# EAGLE library part LGA2011V3SOCKET (library LGA2011)
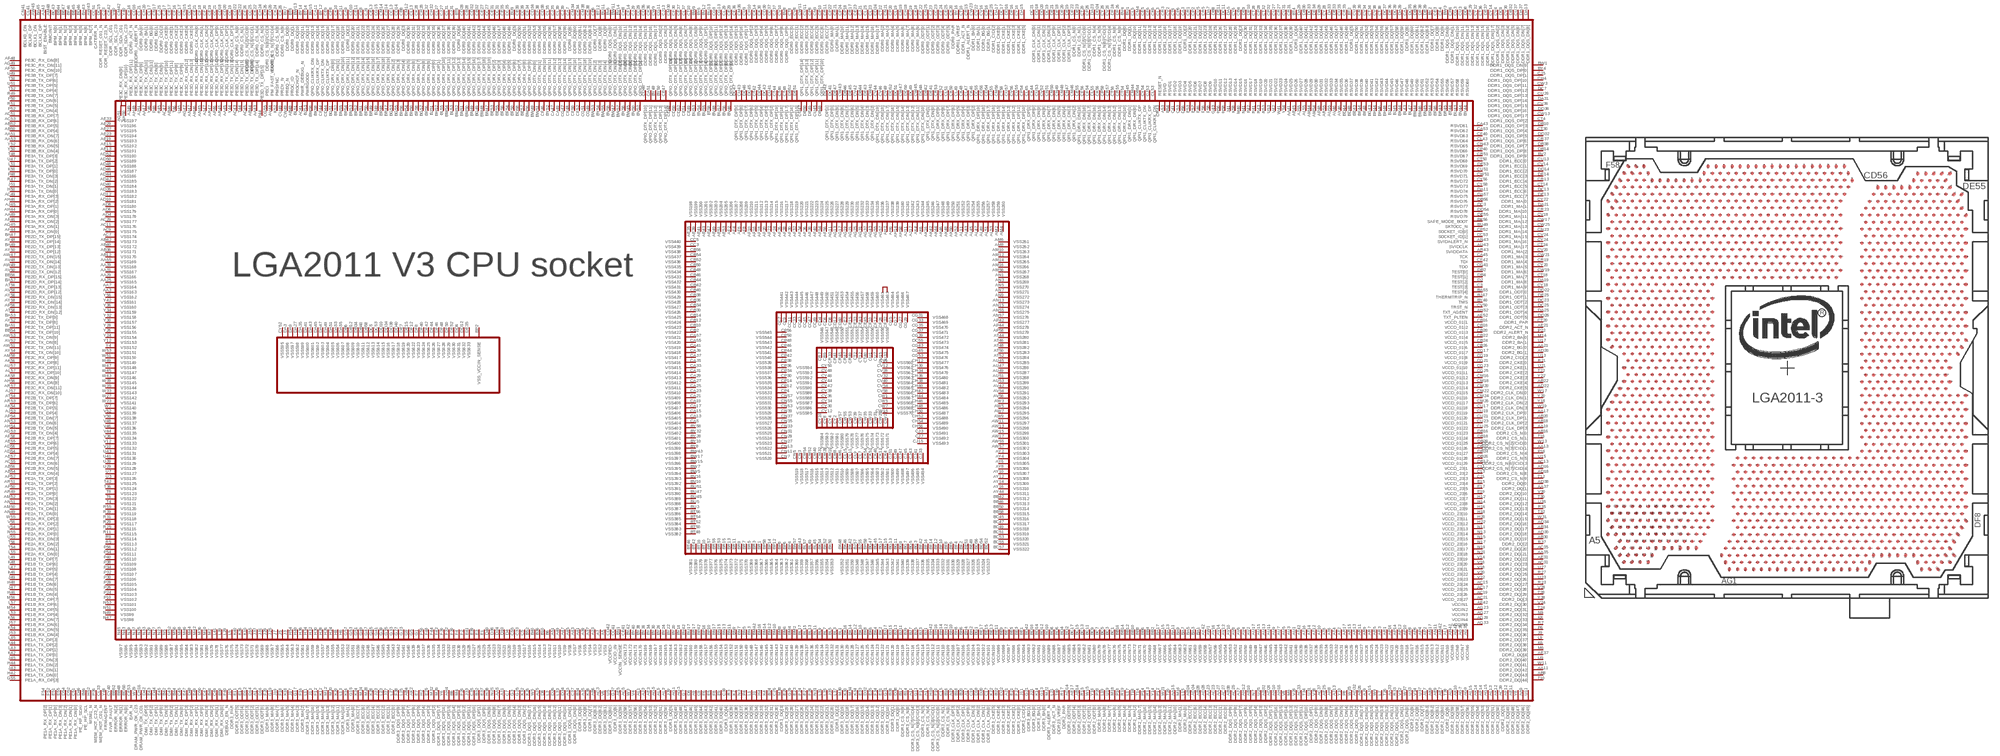
[diagram p0: symbol with the pads of LGA2011; footprint LGA2011]

Designator prefix IC

## LGA2011V3SOCKET  [LGA2011]
A5  VSS1
A7  VSS2
A9  DDR3_DQ[45]
A11  DDR3_CS_N[7]/CID[4]
A13  DDR3_ODT[1]
A15  DDR3_CS_N[4]
A17  DDR3_CLK_DP[0]
A19  DDR3_CLK_DP[3]
A21  DDR3_CKE[2]
A23  VSS3
A33  DDR3_DQS_DN[1]
A35  DDR3_DQ[8]
A37  VSS4
A39  VSS5
A41  VSS6
A43  VSS7
A45  VSS8
A47  VSS9
A49  VSS10
A51  VSS11
A53  RSVD
AA3  VSS163
AA5  DDR3_DQS_DN[7]
AA7  VSS164
AA9  DDR2_DQ[46]
AA11  DDR2_DQ[42]
AA13  DDR2_CS_N[3]/CID[1]
AA15  DDR2_MA[10]
AA17  DDR2_CLK_DP[0]
AA19  DDR2_CLK_DP[3]
AA21  DDR2_BG[0]
AA23  DDR2_ECC[3]
AA25  VSS165
AA27  DDR2_ECC[1]
AA29  VSS166
AA31  VSS167
AA33  DDR2_DQS_DN[11]
AA35  DDR2_DQ[21]
AA37  DDR2_DQ[1]
AA39  VSS168
AA41  RSVD25
AA43  PE3D_TX_DP[14]
AA45  PE3D_TX_DN[12]
AA47  PE3C_TX_DN[10]
AA49  PE3A_RX_DN[3]
AA51  PE3B_RX_DN[7]
AA53  PE3B_RX_DN[6]
AA55  VSS169
AB4  DDR3_DQS_DP[7]
AB6  DDR3_DQ[63]
AB8  DDR2_DQ[43]
AB10  DDR2_DQS_DP[5]
AB12  VSS170
AB14  DDR2_ODT[3]
AB16  DDR2_CS_N[0]
AB18  DDR2_CLK_DP[2]
AB20  DDR2_CLK_DP[1]
AB22  DDR2_CKE[4]
AB24  DDR2_ECC[7]
AB26  DDR2_DQS_DN[17]
AB28  DDR2_ECC[5]
AB30  DDR2_DQ[19]
AB32  DDR2_DQS_DP[2]
AB34  DDR2_DQ[17]
AB36  VSS171
AB38  DDR2_DQS_DP[9]
AB40  VSS172
AB42  VSS173
AB44  PE3D_TX_DP[13]
AB46  PE3C_TX_DP[11]
AB48  PROC_ID
AB50  PE3B_RX_DP[4]
AB52  PE3B_RX_DP[5]
AB54  PE2B_RX_DN[4]
AB56  PE2B_RX_DN[5]
AC3  DDR3_DQ[62]
AC5  DDR3_DQ[58]
AC7  VSS174
AC9  VSS175
AC11  VSS176
AC13  DDR2_CS_N[6]/CID[3]
AC15  VCCD_23|24
AC17  VCCD_23|25
AC19  VCCD_23|26
AC21  VCCD_23|27
AC23  DDR2_ECC[2]
AC25  DDR2_DQS_DP[8]
AC27  DDR2_ECC[0]
AC29  VSS177
AC31  DDR2_DQ[23]
AC33  DDR2_DQS_DP[11]
AC35  DDR2_DQ[20]
AC37  DDR2_DQS_DN[9]
AC39  DDR2_DQ[5]
AC41  PWR_DEBUG_N
AC43  PE3D_TX_DN[14]
AC45  PE3D_TX_DP[12]
AC47  PE3C_TX_DP[10]
AC49  PE3A_RX_DP[3]
AC51  PE3B_RX_DP[7]
AC53  PE3B_RX_DP[6]
AC55  PE2B_RX_DN[6]
AD4  VSS178
AD6  VSS179
AD8  VSS180
AD10  VSS181
AD12  VSS182
AD14  DDR2_ODT[5]
AD16  DDR2_CS_N[7]/CID[4]
AD18  DDR2_CS_N[8]
AD20  DDR2_BG[1]
AD22  DDR2_CKE[5]
AD24  DDR2_ECC[6]
AD26  DDR2_DQS_DP[17]
AD28  DDR2_ECC[4]
AD30  DDR2_DQ[18]
AD32  DDR2_DQS_DN[2]
AD34  DDR2_DQ[16]
AD36  VSS183
AD38  DDR2_DQ[0]
AD40  VSS184
AD42  VSS185
AD44  VSS186
AD46  VSS187
AD48  VSS188
AD50  VSS189
AD52  VSS190
AD54  PE2B_RX_DP[4]
AD56  PE2B_RX_DP[5]
AE3  DDR3_DQ[53]
AE5  DDR3_DQ[59]
AE7  DDR2_DQ[60]
AE9  DDR2_DQ[61]
AE11  DDR2_DQ[48]
AE13  VSS191
AE15  VSS192
AE17  DDR2_ODT[4]
AE19  VSS193
AE21  DDR2_ACT_N
AE23  VSS194
AE25  DDR2_DQS_DN[8]
AE27  VSS195
AE29  VSS196
AE31  DDR2_DQ[22]
AE33  VSS197
AE35  VSS198
AE37  DDR2_DQ[4]
AE39  VSS199
AE41  VSS200
AE43  VSS201
AE45  RSVD26
AE47  VSS202
AE49  VSS203
AE51  VSS204
AE53  VSS205
AE55  PE2B_RX_DP[6]
AE57  PE2B_RX_DN[7]
AF2  VSS206
AF4  VSS207
AF6  VSS208
AF8  VSS209
AF10  VSS210
AF12  DDR2_DQ[49]
AF14  DDR2_DQ[53]
AF16  VSS211
AF18  VSS212
AF20  VSS213
AF22  VSS214
AF24  VSS215
AF26  VSS216
AF28  VSS217
AF30  VSS218
AF32  VSS219
AF34  VSS220
AF36  VSS221
AF38  VSS222
AF40  VSS223
AF42  VCCIN1
AF44  PE3A_RX_DN[0]
AF46  PE3A_RX_DN[2]
AF48  PE3C_RX_DN[8]
AF50  PE3C_RX_DN[10]
AF52  TXT_PLTEN
AF54  VSS224
AF56  VSS225
AF58  PE2B_RX_DP[7]
AG1  DDR3_DQ[49]
AG3  DDR3_DQ[48]
AG5  DDR3_DQ[52]
AG7  DDR2_DQ[57]
AG9  DDR2_DQ[56]
AG11  VSS226
AG13  VSS227
AG15  DDR2_DQ[52]
AG17  VSS228
AG19  VSS229
AG21  VSS230
AG23  VCCIN2
AG25  VSS231
AG27  VCCIN3
AG29  VCCIN4
AG31  VSS232
AG33  VCCIN5
AG35  VCCIN6
AG37  VSS233
AG39  VCCIN7
AG41  VCCIN8
AG43  VSS234
AG45  PE3A_RX_DN[1]
AG47  PE3D_RX_DN[12]
AG49  PE3C_RX_DN[11]
AG51  PE3C_RX_DN[9]
AG53  PE2B_TX_DN[4]
AG55  VSS235
AG57  VSS236
AH2  VSS237
AH4  DDR3_DQS_DP[15]
AH6  VSS238
AH8  DDR2_DQS_DN[7]
AH10  DDR2_DQS_DP[16]
AH12  DDR2_DQS_DP[6]
AH14  VSS239
AH16  DDR2_DQS_DP[15]
AH42  VCCIN9
AH44  PE3A_RX_DP[0]
AH46  PE3A_RX_DP[2]
AH48  PE3C_RX_DP[8]
AH50  PE3C_RX_DP[10]
AH52  TXT_AGENT
AH54  PE2B_TX_DN[5]
AH56  PE2C_RX_DN[8]
AH58  VSS240
AJ1  DDR3_DQS_DN[6]
AJ3  DDR3_DQ[54]
AJ5  DDR3_DQS_DN[15]
AJ7  DDR2_DQS_DP[7]
AJ9  DDR2_DQS_DN[16]
AJ11  VSS241
AJ13  DDR2_DQS_DN[6]
AJ15  DDR2_DQS_DN[15]
AJ17  VSS242
AJ43  BIST_ENABLE
AJ45  PE3A_RX_DP[1]
AJ47  PE3D_RX_DP[12]
AJ49  PE3C_RX_DP[11]
AJ51  PE3C_RX_DP[9]
AJ53  PE2B_TX_DP[4]
AJ55  RSVD27
AJ57  PE2C_RX_DN[10]
AK2  DDR3_DQS_DP[6]
AK4  VSS243
AK6  VSS244
AK8  DDR2_DQ[62]
AK10  DDR2_DQ[58]
AK12  DDR2_DQ[50]
AK14  DDR2_DQ[54]
AK16  VSS245
AK42  VSS246
AK44  VSS247
AK46  VSS248
AK48  VSS249
AK50  VSS250
AK52  VSS251
AK54  PE2B_TX_DP[5]
AK56  PE2C_RX_DP[8]
AK58  PE2C_RX_DN[9]
AL1  DDR3_DQ[55]
AL3  DDR3_DQ[50]
AL5  DDR3_DQ[51]
AL7  DDR2_DQ[63]
AL9  DDR2_DQ[59]
AL11  VSS252
AL13  DDR2_DQ[51]
AL15  DDR2_DQ[55]
AL17  VCCIN10
AL43  VSS253
AL45  VSS254
AL47  VSS255
AL49  VSS256
AL51  VSS257
AL53  VSS258
AL55  RSVD28
AL57  PE2C_RX_DP[10]
AM2  VSS259
AM4  VSS260
AM6  VSS261
AM8  VSS262
AM10  VSS263
AM12  VSS264
AM14  VSS265
AM16  VSS266
AM42  VCCIN11
AM44  RSVD29
AM46  PE3D_RX_DN[14]
AM48  BMCINIT
AM50  PE2A_TX_DN[1]
AM52  PE2A_TX_DN[3]
AM54  RSVD30
AM56  VSS267
AM58  PE2C_RX_DP[9]
AN1  VSS268
AN3  VSS269
AN5  VSS270
AN7  VSS271
AN9  VSS272
AN11  VCCIN12
AN13  VSS273
AN15  VSS274
AN17  VCCIN13
AN43  SVIDALERT_N
AN45  PE3D_RX_DN[15]
AN47  PE3D_RX_DN[13]
AN49  PE2A_TX_DN[0]
AN51  PE2A_TX_DN[2]
AN53  PE2B_TX_DN[6]
AN55  VSS275
AN57  VSS276
AP2  VCCIN14
AP4  VCCIN15
AP6  VCCIN16
AP8  VCCIN17
AP10  VCCIN18
AP12  VCCIN19
AP14  VCCIN20
AP16  VCCIN21
AP42  VSS277
AP44  VSS278
AP46  PE3D_RX_DP[14]
AP48  RSVD31
AP50  PE2A_TX_DP[1]
AP52  PE2A_TX_DP[3]
AP54  PE2B_TX_DN[7]
AP56  PE2D_RX_DN[13]
AP58  VSS279
AR1  VCCIN22
AR3  VCCIN23
AR5  VCCIN24
AR7  VCCIN25
AR9  VCCIN26
AR11  VCCIN27
AR13  VCCIN28
AR15  VCCIN29
AR17  VCCIN30
AR43  SVIDDATA
AR45  PE3D_RX_DP[15]
AR47  PE3D_RX_DP[13]
AR49  PE2A_TX_DP[0]
AR51  PE2A_TX_DP[2]
AR53  PE2B_TX_DP[6]
AR55  RSVD32
AR57  PE2C_RX_DN[11]
AT2  VCCIN31
AT4  VCCIN32
AT6  VCCIN33
AT8  VCCIN34
AT10  VCCIN35
AT12  VCCIN36
AT14  VCCIN37
AT16  VCCIN38
AT42  VCCIN39
AT44  VSS280
AT46  VSS281
AT48  VSS282
AT50  VSS283
AT52  VSS284
AT54  PE2B_TX_DP[7]
AT56  PE2D_RX_DP[13]
AT58  PE2D_RX_DN[12]
AU1  VCCIN40
AU3  VCCIN41
AU5  VCCIN42
AU7  VCCIN43
AU9  VCCIN44
AU11  VCCIN45
AU13  VCCIN46
AU15  VCCIN47
AU17  VCCIN48
AU43  SVIDCLK
AU45  VSS285
AU47  VSS286
AU49  VSS287
AU51  VSS288
AU53  VSS289
AU55  RSVD33
AU57  PE2C_RX_DP[11]
AV2  VCCIN49
AV4  VCCIN50
AV6  VCCIN51
AV8  VCCIN52
AV10  VCCIN53
AV12  VCCIN54
AV14  VCCIN55
AV16  VCCIN56
AV42  VSS290
AV44  PM_FAST_WAKE_N
AV46  RSVD34
AV48  PE2D_TX_DN[14]
AV50  PE2D_TX_DN[12]
AV52  PE2C_TX_DN[8]
AV54  VSS291
AV56  VSS292
AV58  PE2D_RX_DP[12]
AW1  VCCIN57
AW3  VSS293
AW5  VSS294
AW7  VSS295
AW9  VSS296
AW11  VSS297
AW13  VSS298
AW15  VSS299
AW17  VSS300
AW43  BPM_N[7]
AW45  BCLK1_DN
AW47  PE2D_TX_DN[15]
AW49  PE2D_TX_DN[13]
AW51  PE2C_TX_DN[11]
AW53  PE2C_TX_DN[9]
AW55  VSS301
AW57  VSS302
AY2  VSS303
AY4  VSS304
AY6  VSS305
AY8  VSS306
AY10  VSS307
AY12  VSS308
AY14  VSS309
AY16  VSS310
AY42  VCCIN58
AY44  VSS311
AY46  RSVD35
AY48  PE2D_TX_DP[14]
AY50  PE2D_TX_DP[12]
AY52  PE2C_TX_DP[8]
AY54  PE2C_TX_DN[10]
AY56  PE2D_RX_DN[15]
AY58  PE2D_RX_DN[14]
B6  VSS12
B8  DDR3_DQS_DP[14]
B10  VSS13
B12  DDR3_CS_N[9]
B14  DDR3_CS_N[8]
B16  DDR3_CS_N[0]
B18  DDR3_CLK_DP[2]
B20  DDR3_CLK_DP[1]
B22  DDR3_CKE[4]
B24  DDR3_DQ[31]
B32  DDR3_DQS_DP[1]
B34  DDR3_DQ[9]
B36  VSS14
B38  DDR3_DQ[1]
B40  VSS15
B42  DMI_TX_DN[3]
B44  DMI_TX_DN[1]
B46  PE_HP_SCL
B48  DMI_RX_DN[2]
B50  DMI_RX_DN[0]
B52  VSS16
B54  RSVD1
BA1  VCCIN59
BA3  VCCIN60
BA5  VCCIN61
BA7  VCCIN62
BA9  VCCIN63
BA11  VCCIN64
BA13  VCCIN65
BA15  VCCIN66
BA17  VCCIN67
BA43  BPM_N[6]
BA45  BCLK1_DP
BA47  PE2D_TX_DP[15]
BA49  PE2D_TX_DP[13]
BA51  PE2C_TX_DP[11]
BA53  PE2C_TX_DP[9]
BA55  TEST[4]
BA57  PE2D_RX_DP[14]
BB2  VCCIN68
BB4  VCCIN69
BB6  VCCIN70
BB8  VCCIN71
BB10  VCCIN72
BB12  VCCIN73
BB14  VCCIN74
BB16  VCCIN75
BB42  VSS312
BB44  BPM_N[1]
BB46  VSS313
BB48  ERROR_N[1]
BB50  VSS314
BB52  ERROR_N[2]
BB54  PE2C_TX_DP[10]
BB56  PE2D_RX_DP[15]
BB58  VSS315
BC1  VCCIN76
BC3  VCCIN77
BC5  VCCIN78
BC7  VCCIN79
BC9  VCCIN80
BC11  VCCIN81
BC13  VCCIN82
BC15  VCCIN83
BC17  VCCIN84
BC43  BPM_N[0]
BC45  VSS316
BC47  VSS317
BC49  VSS318
BC51  VSS319
BC53  VSS320
BC55  VSS321
BC57  VSS322
BD2  VCCIN85
BD4  VCCIN86
BD6  VCCIN87
BD8  VCCIN88
BD10  VCCIN89
BD12  VCCIN90
BD14  VCCIN91
BD16  VCCIN92
BD42  VCCIN93
BD44  RSVD36
BD46  BPM_N[5]
BD48  RSVD37
BD50  ERROR_N[0]
BD52  VSS323
BD54  VSS324
BD56  VSS325
BD58  QPIO_DRX_DP[7]
BE1  VCCIN94
BE3  VCCIN95
BE5  VCCIN96
BE7  VCCIN97
BE9  VCCIN98
BE11  VCCIN99
BE13  VCCIN100
BE15  VCCIN101
BE17  VCCIN102
BE43  RSVD38
BE45  BPM_N[4]
BE47  BPM_N[2]
BE49  VSS326
BE51  VSS327
BE53  QPIO_DRX_DP[2]
BE55  QPIO_DRX_DP[3]
BE57  QPIO_DRX_DP[8]
BF2  VSS328
BF4  VSS329
BF6  VSS330
BF8  VSS331
BF10  VSS332
BF12  VSS333
BF14  VSS334
BF16  VSS335
BF42  VSS336
BF44  RSVD39
BF46  BPM_N[3]
BF48  RSVD40
BF50  QPIO_DRX_DP[6]
BF52  QPIO_DRX_DN[1]
BF54  QPIO_DRX_DP[5]
BF56  QPIO_DRX_DP[4]
BF58  QPIO_DRX_DN[7]
BG1  VCCIN103
BG3  VSS337
BG5  VSS338
BG7  VSS339
BG9  VSS340
BG11  VSS341
BG13  VSS342
BG15  VSS343
BG17  VSS344
BG43  RSVD41
BG45  VSS345
BG47  VSS346
BG49  QPIO_DRX_DP[17]
BG51  QPIO_DRX_DN[0]
BG53  QPIO_DRX_DN[2]
BG55  QPIO_DRX_DN[3]
BG57  QPIO_DRX_DN[8]
BH2  VCCIN104
BH4  VCCIN105
BH6  VCCIN106
BH8  VCCIN107
BH10  VCCIN108
BH12  VCCIN109
BH14  VCCIN110
BH16  VCCIN111
BH42  VCCIN112
BH44  RSVD42
BH46  RSVD43
BH48  RSVD44
BH50  QPIO_DRX_DN[6]
BH52  QPIO_DRX_DP[1]
BH54  QPIO_DRX_DN[5]
BH56  QPIO_DRX_DN[4]
BH58  VSS347
BJ1  VCCIN113
BJ3  VCCIN114
BJ5  VCCIN115
BJ7  VCCIN116
BJ9  VCCIN117
BJ11  VCCIN118
BJ13  VCCIN119
BJ15  VCCIN120
BJ17  VCCIN121
BJ43  RSVD45
BJ45  RSVD46
BJ47  THERMTRIP_N
BJ49  QPIO_DRX_DN[17]
BJ51  QPIO_DRX_DP[0]
BJ53  PWRGOOD
BJ55  VSS348
BJ57  VSS349
BK2  VCCIN122
BK4  VCCIN123
BK6  VCCIN124
BK8  VCCIN125
BK10  VCCIN126
BK12  VCCIN127
BK14  VCCIN128
BK16  VCCIN129
BK42  VSS350
BK44  RSVD47
BK46  VSS351
BK48  VSS352
BK50  VSS353
BK52  VSS354
BK54  VSS355
BK56  SAFE_MODE_BOOT
BK58  QPIO_CLIKRX_DP
BL1  VCCIN130
BL3  VCCIN131
BL5  VCCIN132
BL7  VCCIN133
BL9  VCCIN134
BL11  VCCIN135
BL13  VCCIN136
BL15  VCCIN137
BL17  VCCIN138
BL43  RSVD48
BL45  VSS356
BL47  RSVD49
BL49  VSS357
BL51  PROCHOT_N
BL53  QPIO_DRX_DP[12]
BL55  QPIO_DRX_DP[10]
BL57  VSS358
BM2  VCCIN139
BM4  VCCIN140
BM6  VCCIN141
BM8  VCCIN142
BM10  VCCIN143
BM12  VCCIN144
BM14  VCCIN145
BM16  VCCIN146
BM42  VCCIN147
BM44  RSVD50
BM46  RSVD51
BM48  QPIO_DRX_DP[18]
BM50  QPIO_DRX_DP[15]
BM52  QPIO_DRX_DP[13]
BM54  QPIO_DRX_DP[11]
BM56  QPIO_DRX_DP[9]
BM58  QPIO_CLIKRX_DN
BN1  VCCIN_SENSE
BN3  VCCIN148
BN5  VCCIN149
BN7  VCCIN150
BN9  VCCIN151
BN11  VCCIN152
BN13  VCCIN153
BN15  VCCIN154
BN17  VCCIN155
BN43  VSS359
BN45  RSVD52
BN47  QPIO_DRX_DP[19]
BN49  QPIO_DRX_DP[16]
BN51  QPIO_DRX_DP[14]
BN53  QPIO_DRX_DN[12]
BN55  QPIO_DRX_DN[10]
BN57  VSS360
BP2  VSS_VCCIN_SENSE
BP4  VSS361
BP6  VSS362
BP8  VSS363
BP10  VCCIN156
BP12  VSS364
BP14  VSS365
BP16  VCCIN157
BP42  VCCIN158
BP44  RSVD53
BP46  RSVD54
BP48  QPIO_DRX_DN[18]
BP50  QPIO_DRX_DN[15]
BP52  QPIO_DRX_DN[13]
BP54  QPIO_DRX_DN[11]
BP56  QPIO_DRX_DN[9]
BP58  VSS366
BR1  VSS367
BR3  VSS368
BR5  VSS369
BR7  VSS370
BR9  VSS371
BR11  VSS372
BR13  VSS373
BR15  VSS374
BR17  VCCIN159
BR43  RSVD55
BR45  RSVD56
BR47  QPIO_DRX_DN[19]
BR49  QPIO_DRX_DN[16]
BR51  QPIO_DRX_DN[14]
BR53  VSS375
BR55  VSS376
BR57  VSS377
BT2  DDR1_DQ[5]
BT4  DDR1_DQ[4]
BT6  DDR0_DQ[1]
BT8  DDR0_DQ[4]
BT10  VSS378
BT12  DDR0_DQ[8]
BT14  DDR0_DQ[12]
BT16  VSS379
BT42  VSS380
BT44  RSVD57
BT46  VSS381
BT48  VSS382
BT50  VSS383
BT52  VSS384
BT54  VSS385
BT56  VSS386
BT58  QPIO_DTX_DP[5]
BU1  DDR1_DQ[1]
BU3  VSS387
BU5  VSS388
BU7  DDR0_DQ[0]
BU9  DDR0_DQ[5]
BU11  DDR0_DQ[9]
BU13  DDR0_DQS_DP[10]
BU15  DDR0_DQ[13]
BU17  VCCIN160
BU43  RSVD58
BU45  VSS389
BU47  VSS390
BU49  SKTOCC_N
BU51  VSS391
BU53  QPIO_DTX_DP[2]
BU55  QPIO_DTX_DP[4]
BU57  QPIO_DTX_DP[7]
BV2  DDR1_DQS_DP[9]
BV4  DDR1_DQ[0]
BV6  DDR0_DQS_DN[0]
BV8  DDR0_DQS_DP[9]
BV10  VSS392
BV12  DDR0_DQS_DP[1]
BV14  DDR0_DQS_DN[10]
BV16  VSS393
BV42  VCCIN161
BV44  RSVD59
BV46  QPIO_DTX_DP[9]
BV48  QPIO_DTX_DP[6]
BV50  QPIO_DTX_DP[0]
BV52  QPIO_DTX_DP[1]
BV54  QPIO_DTX_DP[3]
BV56  QPIO_DTX_DP[8]
BV58  QPIO_DTX_DN[5]
BW1  DDR1_DQS_DN[9]
BW3  DDR1_DQS_DN[0]
BW5  VSS394
BW7  VSS395
BW9  DDR0_DQS_DN[9]
BW11  DDR0_DQS_DN[1]
BW13  DDR0_DQ[10]
BW15  VSS396
BW17  VSS397
BW43  VSS398
BW45  QPIO_DTX_DN[9]
BW47  QPIO_DTX_DN[6]
BW49  QPIO_DTX_DN[0]
BW51  QPIO_DTX_DN[1]
BW53  QPIO_DTX_DN[2]
BW55  QPIO_DTX_DN[4]
BW57  QPIO_DTX_DN[7]
BY2  DDR1_DQ[7]
BY4  DDR1_DQS_DP[0]
BY6  DDR0_DQS_DP[0]
BY8  VSS399
BY10  VSS400
BY12  DDR0_DQ[15]
BY14  DDR0_DQ[11]
BY16  DDR01_VREF
BY18  VCCIN162
BY20  VCCIN163
BY22  VCCIN164
BY24  VCCIN165
BY26  VCCIN166
BY28  VSS401
BY30  VCCIN167
BY32  VSS402
BY34  VCCIN168
BY36  VCCIN169
BY38  VCCIN170
BY40  VCCIN171
BY42  VCCIN172
BY44  RSVD60
BY46  TMS
BY48  QPIO_DTX_DP[12]
BY50  QPIO_DTX_DP[13]
BY52  QPIO_DTX_DN[11]
BY54  QPIO_DTX_DN[3]
BY56  QPIO_DTX_DN[8]
BY58  VSS403
C3  TEST[3]
C5  VSS17
C7  DDR3_DQS_DN[5]
C9  DDR3_DQ[44]
C11  VCCD_23|1
C13  VCCD_23|2
C15  DDR3_CS_N[1]
C17  DDR3_CLK_DN[0]
C19  DDR3_CLK_DN[3]
C21  VCCD_23|3
C23  DDR_RESET_C23_N
C25  DDR3_DQ[30]
C33  VSS18
C35  DDR3_DQS_DP[10]
C37  DDR3_DQS_DN[0]
C39  DDR3_DQ[4]
C41  RSVD2
C43  DMI_TX_DN[2]
C45  DMI_TX_DN[0]
C47  DMI_RX_DN[3]
C49  DMI_RX_DN[1]
C51  PE1A_RX_DN[0]
C53  RSVD3
C55  VSS19
CA1  DDR1_DQ[6]
CA3  DDR1_DQ[2]
CA5  VSS404
CA7  DDR0_DQ[6]
CA9  DDR0_DQ[2]
CA11  DDR0_DQ[14]
CA13  VSS405
CA15  VSS406
CA17  VSS407
CA19  VSS408
CA21  VSS409
CA23  VSS410
CA25  VSS411
CA27  VSS412
CA29  VSS413
CA31  VSS414
CA33  VSS415
CA35  VSS416
CA37  VSS417
CA39  VSS418
CA41  VSS419
CA43  RSVD61
CA45  TCK
CA47  QPIO_DTX_DN[12]
CA49  QPIO_DTX_DN[13]
CA51  QPIO_DTX_DP[11]
CA53  RSVD62
CA55  VSS420
CA57  VSS421
CB2  VSS422
CB4  DDR1_DQ[3]
CB6  DDR0_DQ[7]
CB8  DDR0_DQ[3]
CB10  VSS423
CB12  VSS424
CB14  VSS425
CB16  VCCD_01|1
CB18  VCCD_01|2
CB20  VCCD_01|3
CB22  VCCD_01|4
CB24  VCCD_01|5
CB26  VCCD_01|6
CB28  DDR0_DQ[41]
CB30  VSS426
CB32  DDR0_DQ[43]
CB34  VSS427
CB36  VSS428
CB38  VSS429
CB40  VSS430
CB42  VSS431
CB44  VSS432
CB46  VSS433
CB48  VSS434
CB50  VSS435
CB52  VSS436
CB54  VSS437
CB56  VSS438
CC3  VSS439
CC5  VSS440
CC7  VSS441
CC9  VSS442
CC11  VSS443
CC13  DDR0_DQ[28]
CC15  DDR0_CKE[5]
CC17  DDR0_CKE[3]
CC19  DDR0_CLK_DP[3]
CC21  DDR0_CLK_DP[0]
CC23  DDR0_ODT[3]
CC25  DDR0_CS_N[3]/CID[1]
CC27  DDR0_DQ[45]
CC29  DDR0_DQS_DN[14]
CC31  DDR0_DQ[47]
CC33  VSS444
CC35  DDR0_DQ[49]
CC37  DDR0_DQS_DP[6]
CC39  DDR0_DQ[51]
CC41  VCCIO_IN
CC43  VSS445
CC45  VSS446
CC47  VSS447
CC49  VSS448
CC51  CATERR_N
CC53  SOCKET_ID[1]
CC55  QPI1_DRX_DP[19]
CD4  VSS449
CD6  VSS450
CD8  VSS451
CD10  DDR0_DQ[20]
CD12  VSS452
CD14  DDR0_DQ[29]
CD16  DDR0_ALBERT_N
CD18  DDR0_CLK_DP[1]
CD20  DDR0_CLK_DP[2]
CD22  DDR0_CS_N[0]
CD24  DDR0_MA[17]
CD26  DDR0_CS_N[7]/CID[4]
CD28  DDR0_DQ[40]
CD30  DDR0_DQS_DP[5]
CD32  DDR0_DQ[42]
CD34  DDR0_DQ[53]
CD36  DDR0_DQS_DN[15]
CD38  DDR0_DQ[55]
CD40  VSS453
CD42  VCCPECI
CD44  QPIO_CLIKTX_DP
CD46  QPIO_DTX_DP[10]
CD48  QPIO_DTX_DP[15]
CD50  QPIO_DTX_DP[16]
CD52  QPIO_DTX_DP[17]
CD54  QPI1_DRX_DP[17]
CD56  QPI1_DRX_DP[18]
CE3  DDR1_DQ[8]
CE5  DDR1_DQ[12]
CE7  VSS454
CE9  DDR0_DQ[16]
CE11  DDR0_DQ[21]
CE13  DDR0_DQ[24]
CE15  VSS455
CE17  DDR0_CKE[1]
CE19  DDR0_CLK_DN[3]
CE21  DDR0_CLK_DN[0]
CE23  DDR0_MA[13]
CE25  DDR0_ODT[5]
CE27  DDR0_DQ[44]
CE29  DDR0_DQS_DP[14]
CE31  DDR0_DQ[46]
CE33  VSS456
CE35  DDR0_DQ[48]
CE37  DDR0_DQS_DN[6]
CE39  DDR0_DQ[50]
CE41  VCCIN173
CE43  VSS457
CE45  VSS458
CE47  QPIO_DTX_DP[14]
CE49  QPIO_DTX_DP[19]
CE51  QPIO_DTX_DP[18]
CE53  EAR_N
CE55  QPI1_DRX_DN[19]
CF4  DDR1_DQ[9]
CF6  DDR1_DQ[13]
CF8  DDR0_DQ[17]
CF10  VSS459
CF12  VSS460
CF14  DDR0_DQS_DN[12]
CF16  DDR0_CKE[2]
CF18  DDR0_CLK_DN[1]
CF20  DDR0_CLK_DN[2]
CF22  DDR0_ODT[0]
CF24  DDR0_ODT[4]
CF26  DDR0_CS_N[2]/CID[0]
CF28  VSS461
CF30  DDR0_DQS_DN[5]
CF32  VSS463
CF34  DDR0_DQ[52]
CF36  DDR0_DQS_DP[15]
CF38  DDR0_DQ[54]
CF40  RSVD63
CF42  TDI
CF44  QPIO_CLIKTX_DN
CF46  QPIO_DTX_DN[10]
CF48  QPIO_DTX_DN[15]
CF50  QPIO_DTX_DN[16]
CF52  QPIO_DTX_DN[17]
CF54  QPI1_DRX_DN[17]
CF56  QPI1_DRX_DN[18]
CG3  DDR1_DQS_DN[10]
CG5  VSS464
CG7  VSS465
CG9  DDR0_DQS_DP[11]
CG11  DDR0_DQS_DN[2]
CG13  DDR0_DQS_DP[12]
CG15  DDR0_DQ[25]
CG17  VCCD_01|7
CG19  VCCD_01|8
CG21  VCCD_01|9
CG23  VCCD_01|10
CG25  VCCD_01|11
CG27  VSS466
CG29  VSS467
CG31  VSS468
CG33  VSS469
CG35  VSS470
CG37  VSS471
CG39  VSS472
CG41  TDO
CG43  VSS474
CG45  VSS475
CG47  QPIO_DTX_DN[14]
CG49  QPIO_DTX_DN[19]
CG51  QPIO_DTX_DN[18]
CG53  VSS476
CG55  PECI
CH4  DDR1_DQS_DP[10]
CH6  DDR1_DQS_DN[1]
CH8  DDR0_DQS_DN[11]
CH10  DDR0_DQS_DP[2]
CH12  VSS477
CH14  DDR0_DQ[27]
CH16  DRAM_PWR_OK_CO1
CH18  DDR0_MA[7]
CH20  DDR0_BA[1]
CH22  DDR0_CS_N[1]
CH24  DDR0_CS_N[5]
CH26  DDR0_CS_N[6]/CID[3]
CH28  DDR0_DQ[33]
CH30  VSS478
CH32  DDR0_DQ[35]
CH34  VSS479
CH36  VSS480
CH38  VSS481
CH40  VSS482
CH42  VSS483
CH44  VSS484
CH46  VSS485
CH48  VSS486
CH50  VSS487
CH52  VSS488
CH54  VSS489
CH56  VSS490
CJ3  VSS491
CJ5  DDR1_DQS_DP[1]
CJ7  VSS492
CJ9  DDR0_DQ[23]
CJ11  DDR0_DQ[19]
CJ13  DDR0_DQS_DN[3]
CJ15  VSS493
CJ17  DDR0_CKE[0]
CJ19  DDR0_MA[8]
CJ21  DDR0_MA[14]
CJ23  DDR0_ODT[2]
CJ25  DDR0_CID[2]
CJ27  DDR0_DQ[37]
CJ29  DDR0_DQS_DN[13]
CJ31  DDR0_DQ[39]
CJ33  VSS494
CJ35  DDR0_DQ[57]
CJ37  DDR0_DQS_DP[7]
CJ39  DDR0_DQ[59]
CJ41  VSS495
CJ43  VSS496
CJ45  VSS497
CJ47  VSS498
CJ49  VSS499
CJ51  VSS500
CJ53  QPI1_CLIKRX_DP
CJ55  QPI1_DRX_DP[16]
CK4  VSS501
CK6  DDR1_DQ[14]
CK8  DDR0_DQ[22]
CK10  DDR0_DQ[18]
CK12  VSS502
CK14  DDR0_DQS_DP[3]
CK16  DDR0_ACT_N
CK18  DDR0_MA[9]
CK20  DDR0_PAR
CK22  DDR0_CS_N[4]
CK24  DDR0_CS_N[8]
CK26  DDR0_CS_N[9]
CK28  DDR0_DQ[32]
CK30  DDR0_DQS_DP[4]
CK32  DDR0_DQ[34]
CK34  DDR0_DQ[61]
CK36  DDR0_DQS_DN[16]
CK38  DDR0_DQ[63]
CK40  VSS503
CK42  DDR_SCL_C01
CK44  QPI1_DRX_DP[0]
CK46  QPI1_DRX_DP[2]
CK48  QPI1_DRX_DP[4]
CK50  QPI1_DRX_DP[6]
CK52  VSS504
CK54  VSS505
CK56  QPI1_DRX_DN[15]
CL3  DDR1_DQ[15]
CL5  DDR1_DQ[10]
CL7  VSS506
CL9  VSS507
CL11  VSS508
CL13  DDR0_DQ[31]
CL15  VSS509
CL17  DDR0_BG[0]
CL19  DDR0_MA[5]
CL21  DDR0_BA[0]
CL23  DDR0_MA[16]
CL25  DDR0_MA[15]
CL27  DDR0_DQ[36]
CL29  DDR0_DQS_DP[13]
CL31  DDR0_DQ[38]
CL33  MEM_HOT_C01_N
CL35  DDR0_DQ[56]
CL37  DDR0_DQS_DN[7]
CL39  DDR0_DQ[58]
CL41  BCLK0_DP
CL43  RSVD64
CL45  QPI1_DRX_DP[1]
CL47  QPI1_DRX_DP[3]
CL49  QPI1_DRX_DP[5]
CL51  QPI1_DRX_DP[7]
CL53  QPI1_CLIKRX_DN
CL55  QPI1_DRX_DN[16]
CM4  DDR1_DQ[11]
CM6  VSS510
CM8  VSS511
CM10  VSS512
CM12  DDR0_DQ[30]
CM14  DDR0_DQ[26]
CM16  VCCD_01|12
CM18  VCCD_01|13
CM20  VCCD_01|14
CM22  VCCD_01|15
CM24  VCCD_01|16
CM26  VCCD_01|17
CM28  VSS513
CM30  DDR0_DQS_DN[4]
CM32  VSS514
CM34  DDR0_DQ[60]
CM36  DDR0_DQS_DP[16]
CM38  DDR0_DQ[62]
CM40  VSS515
CM42  DDR_SDA_C01
CM44  QPI1_DRX_DN[0]
CM46  QPI1_DRX_DN[2]
CM48  QPI1_DRX_DN[4]
CM50  QPI1_DRX_DN[6]
CM52  VSS516
CM54  VSS517
CM56  QPI1_DRX_DP[15]
CN3  VSS518
CN5  VSS519
CN7  VSS520
CN9  DDR0_ECC[5]
CN11  VSS521
CN13  VSS522
CN15  DDR0_CKE[4]
CN17  DDR0_BG[1]
CN19  DDR0_MA[6]
CN21  DDR0_MA[3]
CN23  DDR1_MA[14]
CN25  DDR0_ODT[1]
CN27  VSS523
CN29  VSS524
CN31  VSS525
CN33  VSS526
CN35  VSS527
CN37  VSS528
CN39  VSS529
CN41  BCLK0_DN
CN43  RSVD65
CN45  QPI1_DRX_DN[1]
CN47  QPI1_DRX_DN[3]
CN49  QPI1_DRX_DN[5]
CN51  QPI1_DRX_DN[7]
CN53  VSS530
CN55  VSS531
CN57  VSS532
CP2  DDR1_DQ[21]
CP4  VSS533
CP6  DDR1_DQ[19]
CP8  DDR0_ECC[4]
CP10  DDR0_ECC[6]
CP12  VSS534
CP14  VSS535
CP16  DDR1_BG[1]
CP18  DDR0_MA[11]
CP20  DDR0_MA[4]
CP22  DDR0_MA[0]
CP24  DDR0_MA[10]
CP26  DDR1_CS_N[3]/CID[1]
CP28  DDR1_DQ[33]
CP30  VSS536
CP32  DDR1_DQ[35]
CP34  VSS537
CP36  VSS538
CP38  VSS539
CP40  RSVD66
CP42  VSS540
CP44  VSS541
CP46  VSS542
CP48  VSS543
CP50  VSS544
CP52  SOCKET_ID[0]
CP54  QPI1_DRX_DP[10]
CP56  VSS545
CP58  QPI1_DRX_DN[14]
CR1  DDR1_DQ[20]
CR3  DDR1_DQ[16]
CR5  DDR1_DQ[23]
CR7  VSS546
CR9  VSS547
CR11  DDR0_ECC[7]
CR13  DDR1_ECC[4]
CR15  DDR1_ALERT_N
CR17  DDR0_MA[12]
CR19  DDR1_MA[4]
CR21  DDR0_MA[1]
CR23  DDR1_MA[10]
CR25  DDR1_CID[2]
CR27  DDR1_DQ[37]
CR29  DDR1_DQS_DN[13]
CR31  DDR1_DQ[39]
CR33  VSS548
CR35  DDR1_DQ[49]
CR37  DDR1_DQS_DP[6]
CR39  DDR1_DQ[51]
CR41  VSS549
CR43  RESET_N
CR45  VSS550
CR47  VSS551
CR49  VSS552
CR51  RSVD67
CR53  QPI1_DRX_DP[9]
CR55  QPI1_DRX_DN[11]
CR57  QPI1_DRX_DN[13]
CT2  VSS553
CT4  DDR1_DQS_DP[2]
CT6  DDR1_DQ[18]
CT8  DDR0_ECC[0]
CT10  DDR0_DQS_DN[8]
CT12  VSS554
CT14  DDR1_ECC[5]
CT16  DDR1_ACT_N
CT18  DDR1_MA[7]
CT20  DDR1_PAR
CT22  DDR0_MA[2]
CT24  DDR1_MA[17]
CT26  DDR1_CS_N[2]/CID[0]
CT28  DDR1_DQ[32]
CT30  DDR1_DQS_DP[4]
CT32  DDR1_DQ[34]
CT34  DDR1_DQ[53]
CT36  DDR1_DQS_DN[15]
CT38  DDR1_DQ[55]
CT40  VSS555
CT42  QPI1_DTX_DP[5]
CT44  QPI1_DTX_DP[19]
CT46  QPI1_DTX_DP[18]
CT48  QPI1_DTX_DP[17]
CT50  RSVD68
CT52  QPI1_DRX_DP[8]
CT54  QPI1_DRX_DN[10]
CT56  QPI1_DRX_DN[12]
CT58  QPI1_DRX_DP[14]
CU1  VSS556
CU3  DDR1_DQS_DN[11]
CU5  DDR1_DQ[22]
CU7  VSS557
CU9  DDR0_DQS_DP[17]
CU11  DDR0_ECC[3]
CU13  DDR1_ECC[0]
CU15  VSS558
CU17  VCCD_01|18
CU19  VCCD_01|19
CU21  VCCD_01|20
CU23  VCCD_01|21
CU25  VCCD_01|22
CU27  DDR1_DQ[36]
CU29  DDR1_DQS_DP[13]
CU31  DDR1_DQ[38]
CU33  VSS559
CU35  DDR1_DQ[48]
CU37  DDR1_DQS_DN[6]
CU39  DDR1_DQ[50]
CU41  QPI1_DTX_DP[2]
CU43  QPI1_DTX_DP[8]
CU45  QPI1_DTX_DP[11]
CU47  QPI1_DTX_DP[14]
CU49  PRDY_N
CU51  RSVD70
CU53  QPI1_DRX_DN[9]
CU55  QPI1_DRX_DP[11]
CU57  QPI1_DRX_DP[13]
CV2  DDR1_DQ[17]
CV4  DDR1_DQS_DN[2]
CV6  VSS560
CV8  DDR0_ECC[1]
CV10  DDR0_DQS_DP[8]
CV12  VSS561
CV14  DDR1_ECC[1]
CV16  DDR1_BG[0]
CV18  DDR1_MA[11]
CV20  DDR1_MA[2]
CV22  DDR1_BA[1]
CV24  DDR1_MA[15]
CV26  DDR1_CS_N[7]/CID[4]
CV28  VSS562
CV30  DDR1_DQS_DN[4]
CV32  VSS563
CV34  DDR1_DQ[52]
CV36  DDR1_DQS_DP[15]
CV38  DDR1_DQ[54]
CV40  VSS564
CV42  QPI1_DTX_DN[5]
CV44  QPI1_DTX_DN[19]
CV46  QPI1_DTX_DN[18]
CV48  QPI1_DTX_DN[17]
CV50  TRST_N
CV52  QPI1_DRX_DN[8]
CV54  VSS565
CV56  QPI1_DRX_DP[12]
CV58  VSS566
CW1  VSS567
CW3  DDR1_DQS_DP[11]
CW5  VSS568
CW7  VSS569
CW9  DDR0_DQS_DN[17]
CW11  DDR0_ECC[2]
CW13  DDR1_DQS_DP[17]
CW15  VSS570
CW17  DDR1_MA[12]
CW19  DDR1_MA[6]
CW21  DDR1_MA[3]
CW23  DDR1_BA[0]
CW25  DDR1_MA[13]
CW27  VSS571
CW29  VSS572
CW31  VSS573
CW33  VSS574
CW35  VSS575
CW37  VSS576
CW39  VSS577
CW41  QPI1_DTX_DN[2]
CW43  QPI1_DTX_DN[8]
CW45  QPI1_DTX_DN[11]
CW47  QPI1_DTX_DN[14]
CW49  PREQ_N
CW51  RSVD71
CW53  VSS578
CW55  VSS579
CW57  VSS580
CY2  VSS581
CY4  VSS582
CY6  DDR1_DQ[29]
CY8  VSS583
CY10  VSS584
CY12  VSS585
CY14  DDR1_DQS_DN[17]
CY16  DDR1_CKE[4]
CY18  DDR1_MA[9]
CY20  DDR1_MA[5]
CY22  DDR1_MA[0]
CY24  DDR1_MA[16]
CY26  DDR1_CS_N[6]/CID[3]
CY28  DDR1_DQ[45]
CY30  VSS586
CY32  DDR1_DQS_DN[14]
CY34  VSS587
CY36  VSS588
CY38  VSS589
CY40  FIVR_FAULT
CY42  VSS590
CY44  VSS591
CY46  VSS592
CY48  VSS593
CY50  VSS594
CY52  VSS595
CY54  QPI1_CLIKTX_DN
CY56  RSVD72
CY58  RSVD73
D2  TEST[2]
D4  VSS20
D6  DDR3_DQ[46]
D8  DDR3_DQS_DN[14]
D10  VSS21
D12  DDR3_ODT[3]
D14  DDR3_ODT[2]
D16  DDR3_ODT[0]
D18  DDR3_CLK_DN[2]
D20  DDR3_CLK_DN[1]
D22  DDR3_CKE[3]
D24  VSS22
D26  DDR3_DQS_DN[12]
D32  DDR3_DQ[14]
D34  DDR3_DQS_DN[10]
D36  VSS23
D38  DDR3_DQ[0]
D40  VSS24
D42  DMI_TX_DP[3]
D44  DMI_TX_DP[1]
D46  PE_HP_SDA\
D48  DMI_RX_DP[2]
D50  DMI_RX_DP[0]
D52  PE1A_RX_DN[1]
D54  PE1A_RX_DN[2]
D56  RSVD4
DA3  VSS596
DA5  DDR1_DQ[28]
DA7  DDR1_DQ[24]
DA9  VSS597
DA11  RSVD74
DA13  DDR1_DQS_DN[8]
DA15  DDR1_CKE[5]
DA17  DDR1_CKE[0]
DA19  DDR1_MA[8]
DA21  DDR1_MA[1]
DA23  DDR1_CS_N[4]
DA25  DDR1_ODT[4]
DA27  VSS598
DA29  DDR1_DQ[40]
DA31  DDR1_DQS_DP[14]
DA33  DDR1_DQ[46]
DA35  VSS599
DA37  DDR1_DQS_DN[7]
DA39  DDR1_DQ[59]
DA41  VSS600
DA43  VSS601
DA45  VSS602
DA47  VSS603
DA49  VSS604
DA51  VSS605
DA53  VSS606
DA55  VSS607
DA57  RSVD75
DB2  TEST[0]
DB4  TEST[1]
DB6  VSS608
DB8  DDR1_DQ[25]
DB10  DDR1_DQS_DP[3]
DB12  VSS609
DB14  DDR1_DQS_DP[8]
DB16  VCCD_01|23
DB18  VCCD_01|24
DB20  VCCD_01|25
DB22  VCCD_01|26
DB24  VCCD_01|27
DB26  VCCD_01|28
DB28  DDR1_DQ[44]
DB30  DDR1_DQ[41]
DB32  DDR1_DQS_DN[5]
DB34  VSS610
DB36  DDR1_DQ[61]
DB38  DDR1_DQS_DP[7]
DB40  VSS611
DB42  QPI1_DTX_DN[1]
DB44  QPI1_DTX_DN[4]
DB46  QPI1_DTX_DN[7]
DB48  QPI1_DTX_DP[10]
DB50  QPI1_DTX_DP[13]
DB52  QPI1_DTX_DP[16]
DB54  QPI1_CLIKTX_DP
DB56  RSVD76
DB58  VSS612
DC3  RSVD77
DC5  VSS613
DC7  DDR1_DQS_DP[12]
DC9  DDR1_DQS_DN[3]
DC11  DDR1_DQ[27]
DC13  DDR1_ECC[6]
DC15  DDR_RESET_C01_N
DC17  DDR1_CKE[1]
DC19  DDR1_CLK_DN[3]
DC21  DDR1_CLK_DN[0]
DC23  DDR1_ODT[2]
DC25  DDR1_ODT[3]
DC33  DDR1_DQ[42]
DC35  DDR1_DQ[60]
DC37  DDR1_DQ[56]
DC39  DDR1_DQ[58]
DC41  QPI1_DTX_DP[0]
DC43  QPI1_DTX_DP[3]
DC45  QPI1_DTX_DP[6]
DC47  QPI1_DTX_DP[9]
DC49  QPI1_DTX_DN[12]
DC51  QPI1_DTX_DN[15]
DC53  VSS614
DC55  VSS473
DD6  VSS631
DD8  DDR1_DQS_DN[12]
DD10  VSS615
DD12  VSS632
DD14  DDR1_ECC[2]
DD16  DDR1_CKE[2]
DD18  DDR1_CLK_DN[1]
DD20  DDR1_CLK_DN[2]
DD22  DDR1_ODT[0]
DD24  DDR1_CS_N[5]
DD26  DDR1_ODT[5]
DD32  DDR1_DQS_DP[5]
DD34  VSS616
DD36  DDR1_DQS_DP[16]
DD38  VSS617
DD40  VSS618
DD42  QPI1_DTX_DP[1]
DD44  QPI1_DTX_DP[4]
DD46  QPI1_DTX_DP[7]
DD48  QPI1_DTX_DN[10]
DD50  QPI1_DTX_DN[13]
DD52  QPI1_DTX_DN[16]
DD54  RSVD78
DE7  VSS619
DE9  DDR1_DQ[30]
DE11  DDR1_DQ[26]
DE13  DDR1_ECC[7]
DE15  VSS620
DE17  VCCD_01|29
DE19  DDR1_CLK_DP[3]
DE21  DDR1_CLK_DP[0]
DE23  DDR1_CS_N[1]
DE25  DDR1_ODT[1]
DE33  DDR1_DQ[47]
DE35  VSS633
DE37  DDR1_DQS_DN[16]
DE39  DDR1_DQ[63]
DE41  QPI1_DTX_DN[0]
DE43  QPI1_DTX_DN[3]
DE45  QPI1_DTX_DN[6]
DE47  QPI1_DTX_DN[9]
DE49  QPI1_DTX_DP[12]
DE51  QPI1_DTX_DP[15]
DE53  RSVD69
DE55  RSVD79
DF8  VSS623
DF10  DDR1_DQ[31]
DF12  VSS622
DF14  DDR1_ECC[3]
DF16  DDR1_CKE[3]
DF18  DDR1_CLK_DP[1]
DF20  DDR1_CLK_DP[2]
DF22  DDR1_CS_N[0]
DF24  DDR1_CS_N[8]
DF26  DDR1_CS_N[9]
DF34  DDR1_DQ[43]
DF36  DDR1_DQ[57]
DF38  DDR1_DQ[62]
DF40  VSS624
DF42  VSS625
DF44  VSS626
DF46  VSS627
DF48  VSS628
DF50  VSS629
DF52  VSS630
E1  VSS25
E3  VSS26
E5  DDR3_DQ[42]
E7  DDR3_DQS_DP[5]
E9  DDR3_DQ[40]
E11  DDR3_ODT[5]
E13  DDR3_ODT[4]
E15  VCCD_23|4
E17  VCCD_23|5
E19  VCCD_23|6
E21  DDR3_CKE[1]
E23  DDR3_DQ[27]
E25  DDR3_DQS_DP[3]
E27  DDR3_DQ[25]
E29  DDR3_DQ[29]
E31  DDR3_DQ[11]
E33  DDR3_DQ[15]
E35  DDR3_DQ[13]
E37  DDR3_DQS_DP[0]
E39  VSS27
E41  VSS28
E43  DMI_TX_DP[2]
E45  DMI_TX_DP[0]
E47  DMI_RX_DP[3]
E49  DMI_RX_DP[1]
E51  PE1A_RX_DP[0]
E53  RSVD5
E55  PE1A_RX_DN[3]
E57  RSVD6
F2  VSS29
F4  VSS30
F6  DDR3_DQ[43]
F8  DDR3_DQ[41]
F10  DDR3_CS_N[2]/CID[0]
F12  DDR3_MA[15]
F14  DDR3_CS_N[5]
F16  DDR3_MA[2]
F18  DDR3_MA[6]
F20  DDR3_MA[9]
F22  DDR3_CKE[0]
F24  DDR3_DQ[26]
F26  DDR3_DQS_DP[12]
F28  DDR3_DQ[24]
F30  VSS31
F32  VSS32
F34  DDR3_DQ[12]
F36  VSS33
F38  DDR3_DQS_DP[9]
F40  DEBUG_EN_N
F42  VSS34
F44  VSS35
F46  RSVD7
F48  VSS36
F50  VSS37
F52  PE1A_RX_DP[1]
F54  PE1A_RX_DP[2]
F56  RSVD8
F58  RSVD9
G1  VSS38
G3  DDR3_DQS_DN[4]
G5  VSS39
G7  DDR3_DQ[47]
G9  VSS40
G11  DDR3_CS_N[6]/CID[3]
G13  DDR3_BA[0]
G15  DDR3_MA[0]
G17  DDR3_MA[3]
G19  DDR3_MA[8]
G21  DDR3_BG[1]
G23  VSS41
G25  DDR3_DQS_DN[3]
G27  VSS42
G29  DDR3_DQ[28]
G31  DDR3_DQ[10]
G33  VSS43
G35  VSS44
G37  DDR3_DQ[6]
G39  VSS45
G41  VSS46
G43  RSVD10
G45  VSS47
G47  VSS48
G49  VSS49
G51  VSS50
G53  VSS51
G55  PE1A_RX_DP[3]
G57  VSS52
H2  DDR3_DQS_DP[4]
H4  DDR3_DQ[33]
H6  VSS53
H8  VSS54
H10  DDR3_CS_N[3]/CID[1]
H12  VCCD_23|7
H14  VCCD_23|8
H16  VCCD_23|9
H18  VCCD_23|10
H20  VCCD_23|11
H22  VCCD_23|12
H24  VSS55
H26  VSS56
H28  VSS57
H30  VSS58
H32  VSS59
H34  VSS60
H36  VSS61
H38  DDR3_DQS_DN[9]
H40  VSS62
H42  PE1A_TX_DN[0]
H44  PE1A_TX_DN[2]
H46  PE1B_TX_DN[4]
H48  PE1B_TX_DN[6]
H50  PE3A_TX_DN[0]
H52  MSM1_N
H54  VSS63
H56  RSVD11
H58  RSVD12
J1  DDR3_DQ[34]
J3  VSS64
J5  VSS65
J7  VSS66
J9  DDR2_DQ[36]
J11  DDR3_CID[2]
J13  DDR3_MA[16]
J15  DDR3_PAR
J17  DDR3_MA[4]
J19  DDR3_MA[7]
J21  DDR3_BG[0]
J23  DDR3_ECC[3]
J25  VSS67
J27  DDR3_ECC[1]
J29  VSS68
J31  VSS69
J33  DDR3_DQS_DP[11]
J35  DDR3_DQ[20]
J37  VSS70
J39  DDR3_DQ[5]
J41  RSVD13
J43  PE1A_TX_DN[1]
J45  PE1A_TX_DN[3]
J47  PE1B_TX_DN[5]
J49  PE1B_TX_DN[7]
J51  PE3A_TX_DN[1]
J53  PE1B_RX_DN[4]
J55  VSS71
J57  PE1B_RX_DN[6]
K2  DDR3_DQ[38]
K4  DDR3_DQ[32]
K6  DDR2_DQ[38]
K8  DDR2_DQ[33]
K10  VSS72
K12  DDR3_MA[14]
K14  DDR3_BA[1]
K16  DDR3_MA[1]
K18  DDR3_MA[5]
K20  DDR3_MA[11]
K22  DDR3_CKE[5]
K24  DDR3_ECC[7]
K26  DDR3_DQS_DN[17]
K28  DDR3_ECC[4]
K30  DDR3_DQ[18]
K32  DDR3_DQS_DN[2]
K34  DDR3_DQ[16]
K36  VSS73
K38  DDR3_DQ[7]
K40  VSS74
K42  PE1A_TX_DP[0]
K44  PE1A_TX_DP[2]
K46  PE1B_TX_DP[4]
K48  PE1B_TX_DP[6]
K50  PE3A_TX_DP[0]
K52  PMSYNC
K54  PE1B_RX_DN[5]
K56  PE1B_RX_DN[7]
K58  RSVD14
L1  DDR3_DQ[35]
L3  DDR3_DQS_DN[13]
L5  VSS75
L7  DDR2_DQS_DN[13]
L9  DDR2_DQ[37]
L11  DDR3_MA[17]
L13  DDR3_MA[10]
L15  DDR2_MA[0]
L17  DDR2_MA[3]
L19  DDR2_MA[8]
L21  DDR3_ACT_N
L23  DDR3_ECC[2]
L25  DDR3_DQS_DP[8]
L27  DDR3_ECC[0]
L29  VSS76
L31  DDR3_DQ[22]
L33  DDR3_DQS_DN[11]
L35  DDR3_DQ[21]
L37  DDR3_DQ[2]
L39  VSS77
L41  VSS78
L43  PE1A_TX_DP[1]
L45  PE1A_TX_DP[3]
L47  PE1B_TX_DP[5]
L49  PE1B_TX_DP[7]
L51  PE3A_TX_DP[1]
L53  PE1B_RX_DP[4]
L55  PE2A_RX_DN[0]
L57  PE1B_RX_DP[6]
M2  VSS79
M4  DDR3_DQS_DP[13]
M6  DDR2_DQ[39]
M8  DDR2_DQS_DP[13]
M10  VSS80
M12  DDR3_MA[13]
M14  DDR2_BA[0]
M16  DDR2_MA[1]
M18  DDR2_MA[6]
M20  DDR3_MA[12]
M22  DDR3_ALERT_N
M24  DDR3_ECC[6]
M26  DDR3_DQS_DP[17]
M28  DDR3_ECC[5]
M30  DDR3_DQ[19]
M32  DDR3_DQS_DP[2]
M34  DDR3_DQ[17]
M36  VSS81
M38  DDR3_DQ[3]
M40  RSVD15
M42  VSS82
M44  VSS83
M46  VSS84
M48  VSS85
M50  VSS86
M52  VSS87
M54  PE1B_RX_DP[5]
M56  PE1B_RX_DP[7]
N3  DDR3_DQ[37]
N5  VSS88
N7  DDR2_DQS_DP[4]
N9  DDR2_DQ[32]
N11  VCCD_23|13
N13  VCCD_23|14
N15  VCCD_23|15
N17  VCCD_23|16
N19  VCCD_23|17
N21  VCCD_23|18
N23  VSS89
N25  DDR3_DQS_DN[8]
N27  VSS90
N29  VSS91
N31  DDR3_DQ[23]
N33  VSS92
N35  VSS93
N37  VSS94
N39  VSS95
N41  RSVD16
N43  VSS96
N45  VSS97
N47  VSS98
N49  VSS99
N51  VSS100
N53  VSS101
N55  PE2A_RX_DP[0]
P4  DDR3_DQ[36]
P6  DDR2_DQ[35]
P8  DDR2_DQS_DN[4]
P10  VSS102
P12  DDR2_MA[13]
P14  DDR2_MA[16]
P16  DDR2_CS_N[4]
P18  DDR2_MA[5]
P20  DDR2_MA[9]
P22  DDR2_ALERT_N
P24  VSS103
P26  VSS104
P28  VSS105
P30  VSS106
P32  VSS107
P34  VSS108
P36  MEM_HOT_C23_N
P38  VSS109
P40  VSS110
P42  RSVD17
P44  PE3D_TX_DP[15]
P46  PE3C_TX_DN[8]
P48  PE3A_TX_DN[3]
P50  PE3B_TX_DN[6]
P52  PE3B_TX_DN[4]
P54  VSS111
P56  VSS112
R3  DDR3_DQ[39]
R5  VSS113
R7  DDR2_DQ[34]
R9  VSS114
R11  VSS115
R13  DDR2_MA[15]
R15  DDR2_ODT[2]
R17  DDR2_PAR
R19  DDR2_MA[4]
R21  DDR2_CKE[0]
R23  DDR2_DQ[27]
R25  VSS116
R27  DDR2_DQ[25]
R29  VSS117
R31  VSS118
R33  DDR2_DQS_DN[10]
R35  DDR2_DQ[13]
R37  DDR2_DQ[2]
R39  VSS119
R41  RSVD18
R43  RSVD19
R45  PE3C_TX_DN[9]
R47  PE3A_TX_DN[2]
R49  PE3B_TX_DN[7]
R51  PE3B_TX_DN[5]
R53  RSVD20
R55  VSS120
T4  VSS121
T6  VSS122
T8  VSS123
T10  DDR2_DQ[44]
T12  DDR2_CS_N[9]
T14  DDR2_MA[17]
T16  DDR2_CS_N[1]
T18  DDR2_MA[2]
T20  DDR2_MA[11]
T22  DDR2_CKE[2]
T24  DDR2_DQ[31]
T26  DDR2_DQS_DN[12]
T28  DDR2_DQ[29]
T30  DDR2_DQ[11]
T32  DDR2_DQ[14]
T34  DDR2_DQS_DP[10]
T36  VSS124
T38  DDR2_DQ[6]
T40  DDR23_VREF
T42  VSS125
T44  PE3D_TX_DN[15]
T46  PE3C_TX_DP[8]
T48  PE3A_TX_DP[3]
T50  PE3B_TX_DP[6]
T52  PE3B_TX_DP[4]
T54  PE2A_RX_DN[1]
T56  PE2A_RX_DN[2]
U3  VSS126
U5  DDR3_DQ[60]
U7  VSS127
U9  DDR2_DQ[40]
U11  DDR2_DQ[45]
U13  DDR2_CID[2]
U15  DDR2_CS_N[5]
U17  DDR2_BA[1]
U19  DDR2_MA[7]
U21  DDR2_CKE[1]
U23  DDR2_DQ[26]
U25  DDR2_DQS_DP[3]
U27  DDR2_DQ[24]
U29  VSS128
U31  DDR2_DQS_DP[1]
U33  DDR2_DQ[9]
U35  DDR2_DQ[12]
U37  DDR2_DQ[7]
U39  VSS129
U41  VSS130
U43  VSS131
U45  PE3C_TX_DP[9]
U47  PE3A_TX_DP[2]
U49  PE3B_TX_DP[7]
U51  PE3B_TX_DP[5]
U53  RSVD21
U55  PE2A_RX_DN[3]
V4  DDR3_DQ[56]
V6  DDR3_DQ[61]
V8  DDR2_DQS_DP[14]
V10  VSS132
V12  VSS133
V14  VCCD_23|19
V16  VCCD_23|20
V18  VCCD_23|21
V20  VCCD_23|22
V22  VCCD_23|23
V24  DDR2_DQ[30]
V26  DDR2_DQS_DP[12]
V28  DDR2_DQ[28]
V30  DDR2_DQ[10]
V32  DDR2_DQS_DN[1]
V34  DDR2_DQ[8]
V36  VSS134
V38  DDR2_DQS_DP[0]
V40  DDR_SCL_C23
V42  RSVD22
V44  VSS135
V46  VSS136
V48  VSS137
V50  VSS138
V52  VSS139
V54  PE2A_RX_DP[1]
V56  PE2A_RX_DP[2]
W3  DDR3_DQ[57]
W5  DDR3_DQS_DN[16]
W7  VSS140
W9  DDR2_DQS_DN[14]
W11  DDR2_DQ[41]
W13  DDR2_CS_N[2]/CID[0]
W15  DDR2_ODT[1]
W17  DDR2_CLK_DN[0]
W19  DDR2_CLK_DN[3]
W21  DDR2_MA[12]
W23  VSS141
W25  DDR2_DQS_DN[3]
W27  VSS142
W29  DRAM_PWR_OK_C23
W31  DDR2_DQ[15]
W33  VSS143
W35  VSS144
W37  DDR2_DQS_DN[0]
W39  VSS145
W41  RSVD23
W43  VSS146
W45  VSS147
W47  VSS148
W49  VSS149
W51  VSS150
W53  VSS151
W55  PE2A_RX_DP[3]
Y4  VSS152
Y6  DDR3_DQS_DP[16]
Y8  DDR2_DQ[47]
Y10  DDR2_DQS_DN[5]
Y12  VSS153
Y14  DDR2_MA[14]
Y16  DDR2_ODT[0]
Y18  DDR2_CLK_DN[2]
Y20  DDR2_CLK_DN[1]
Y22  DDR2_CKE[3]
Y24  VSS154
Y26  VSS155
Y28  VSS156
Y30  VSS157
Y32  VSS158
Y34  VSS159
Y36  VSS160
Y38  DDR2_DQ[3]
Y40  DDR_SDA_C23
Y42  VSS161
Y44  PE3D_TX_DN[13]
Y46  PE3C_TX_DN[11]
Y48  FRMAGENT
Y50  PE3B_RX_DN[4]
Y52  PE3B_RX_DN[5]
Y54  RSVD24
Y56  VSS162

## Footprint LGA2011 (pad centres in mm)
smd 0.508 x 0.432 rotated 45: A5 -22.69,-21.137; A7 -22.69,-19.374; B6 -22.182,-20.255; B32 -22.182,2.66; C3 -21.674,-22.9; C5 -21.674,-21.137; CV58 18.626,24.662; CY58 19.642,24.662; D2 -21.166,-23.781; D4 -21.166,-22.018; DA57 20.15,23.781; DB56 20.658,22.9; DB58 20.658,24.662; DC55 21.166,22.018; DD54 21.674,21.137; DE53 22.182,20.255; DE55 22.182,22.018; DF52 22.69,19.374; E1 -20.658,-24.662; E3 -20.658,-22.9; F2 -20.15,-23.781; G1 -19.642,-24.662
smd 0.508 x 0.432: A9 -22.69,-17.611; A11 -22.69,-15.849; A13 -22.69,-14.086; A15 -22.69,-12.323; A17 -22.69,-10.56; A19 -22.69,-8.797; A21 -22.69,-7.035; A23 -22.69,-5.272; A33 -22.69,3.542; A35 -22.69,5.305; A37 -22.69,7.067; A39 -22.69,8.83; A41 -22.69,10.593; A43 -22.69,12.356; A45 -22.69,14.118; A47 -22.69,15.881; A49 -22.69,17.644; B24 -22.182,-4.391; C25 -21.674,-3.509; D26 -21.166,-2.628; DA29 20.15,-0.898; DB28 20.658,-1.779; DB30 20.658,-0.016; DF10 22.69,-17.644; DF12 22.69,-15.881; DF14 22.69,-14.118; DF16 22.69,-12.356; DF18 22.69,-10.593; DF20 22.69,-8.83; DF22 22.69,-7.067; DF24 22.69,-5.305; DF26 22.69,-3.542; DF36 22.69,5.272; DF38 22.69,7.035; DF40 22.69,8.797; DF42 22.69,10.56; DF44 22.69,12.323; DF46 22.69,14.086; DF48 22.69,15.849; DF50 22.69,17.611; E27 -20.658,-1.746; E29 -20.658,0.016
smd 0.508 x 0.432 rotated 315: A51 -22.69,19.407
smd 0.508 x 0.432 rotated 135: A53 -22.69,21.169; B52 -22.182,20.288; B54 -22.182,22.051; C53 -21.674,21.169; C55 -21.674,22.932; CU1 18.118,-25.576; CW1 19.134,-25.576; CY2 19.642,-24.695; D56 -21.166,23.814; DA3 20.15,-23.814; DB2 20.658,-24.695; DB4 20.658,-22.932; DC3 21.166,-23.814; DC5 21.166,-22.051; DD6 21.674,-21.169; DD32 21.674,1.746; DE7 22.182,-20.288; DE33 22.182,2.628; DF8 22.69,-19.407; DF34 22.69,3.509; E57 -20.658,24.695; F58 -20.15,25.576; G57 -19.642,24.695; H58 -19.134,25.576
smd 0.432 x 0.508: AA3 -12.53,-22.9; AB56 -12.022,23.814; AC3 -11.514,-22.9; AD56 -11.006,23.814; AE3 -8.298,-23.814; AE57 -10.498,24.695; AF2 -7.79,-24.695; AF58 -9.99,25.576; AG1 -7.282,-25.576; AH58 -8.974,25.576; AJ1 -6.266,-25.576; AK58 -7.958,25.576; AL1 -5.25,-25.576; AM58 -6.942,25.576; AN1 -4.234,-25.576; AP58 -5.926,25.576; AR1 -3.218,-25.576; AT58 -4.91,25.576; AU1 -2.202,-25.576; AV58 -3.894,25.576; AW1 -1.186,-25.576; AY58 -2.878,25.576; BA1 -0.17,-25.576; BB58 -1.862,25.576; BC1 0.846,-25.576; BD58 -0.846,25.576; BE1 1.862,-25.576; BF58 0.17,25.576; BG1 2.878,-25.576; BH58 1.186,25.576; BJ1 3.894,-25.576; BK58 2.202,25.576; BL1 4.91,-25.576; BM58 3.218,25.576; BN1 5.926,-25.576; BP58 4.234,25.576; BR1 6.942,-25.576; BT58 5.25,25.576; BU1 7.958,-25.576; BV58 6.266,25.576; BW1 8.974,-25.576; BY58 7.282,25.576; CA1 9.99,-25.576; CA57 7.79,24.695; CB2 10.498,-24.695; CB56 8.298,23.814; CC3 11.006,-23.814; CD56 11.514,22.9; CE3 12.022,-23.814; CF56 12.53,22.9; CG3 13.038,-23.814; CH56 13.546,22.9; CJ3 14.054,-23.814; CK56 14.562,22.9; CL3 15.07,-23.814; CM56 15.578,22.9; CN3 16.086,-23.814; CN57 16.086,23.781; CP2 16.594,-24.695; CP58 16.594,24.662; CR1 17.102,-25.576; CT58 17.61,24.662; J1 -18.626,-24.662; K58 -18.118,25.576; L1 -17.61,-24.662; L57 -17.61,24.695; M2 -17.102,-23.781; M56 -17.102,23.814; N3 -16.594,-22.9; P56 -16.086,23.814; R3 -15.578,-22.9; T56 -15.07,23.814; U3 -14.562,-22.9; V56 -14.054,23.814; W3 -13.546,-22.9; Y56 -13.038,23.814
smd 0.432 x 0.432: AA5 -12.53,-21.137; AA7 -12.53,-19.374; AA9 -12.53,-17.611; AA11 -12.53,-15.849; AA13 -12.53,-14.086; AA15 -12.53,-12.323; AA17 -12.53,-10.56; AA19 -12.53,-8.797; AA21 -12.53,-7.035; AA23 -12.53,-5.272; AA25 -12.53,-3.509; AA27 -12.53,-1.746; AA29 -12.53,0.016; AA31 -12.53,1.779; AA33 -12.53,3.542; AA35 -12.53,5.305; AA37 -12.53,7.067; AA39 -12.53,8.83; AA41 -12.53,10.593; AA43 -12.53,12.356; AA45 -12.53,14.118; AA47 -12.53,15.881; AA49 -12.53,17.644; AA51 -12.53,19.407; AA53 -12.53,21.169; AA55 -12.53,22.932; AB4 -12.022,-22.018; AB6 -12.022,-20.255; AB8 -12.022,-18.493; AB10 -12.022,-16.73; AB12 -12.022,-14.967; AB14 -12.022,-13.204; AB16 -12.022,-11.442; AB18 -12.022,-9.679; AB20 -12.022,-7.916; AB22 -12.022,-6.153; AB24 -12.022,-4.391; AB26 -12.022,-2.628; AB28 -12.022,-0.865; AB30 -12.022,0.898; AB32 -12.022,2.66; AB34 -12.022,4.423; AB36 -12.022,6.186; AB38 -12.022,7.949; AB40 -12.022,9.711; AB42 -12.022,11.474; AB44 -12.022,13.237; AB46 -12.022,15; AB48 -12.022,16.763; AB50 -12.022,18.525; AB52 -12.022,20.288; AB54 -12.022,22.051; AC5 -11.514,-21.137; AC7 -11.514,-19.374; AC9 -11.514,-17.611; AC11 -11.514,-15.849; AC13 -11.514,-14.086; AC15 -11.514,-12.323; AC17 -11.514,-10.56; AC19 -11.514,-8.797; AC21 -11.514,-7.035; AC23 -11.514,-5.272; AC25 -11.514,-3.509; AC27 -11.514,-1.746; AC29 -11.514,0.016; AC31 -11.514,1.779; AC33 -11.514,3.542; AC35 -11.514,5.305; AC37 -11.514,7.067; AC39 -11.514,8.83; AC41 -11.514,10.593; AC43 -11.514,12.356; AC45 -11.514,14.118; AC47 -11.514,15.881; AC49 -11.514,17.644; AC51 -11.514,19.407; AC53 -11.514,21.169; AC55 -11.514,22.932; AD4 -11.006,-22.018; AD6 -11.006,-20.255; AD8 -11.006,-18.493; AD10 -11.006,-16.73; AD12 -11.006,-14.967; AD14 -11.006,-13.204; AD16 -11.006,-11.442; AD18 -11.006,-9.679; AD20 -11.006,-7.916; AD22 -11.006,-6.153; AD24 -11.006,-4.391; AD26 -11.006,-2.628; AD28 -11.006,-0.865; AD30 -11.006,0.898; AD32 -11.006,2.66; AD34 -11.006,4.423; AD36 -11.006,6.186; AD38 -11.006,7.949; AD40 -11.006,9.711; AD42 -11.006,11.474; AD44 -11.006,13.237; AD46 -11.006,15; AD48 -11.006,16.763; AD50 -11.006,18.525; AD52 -11.006,20.288; AD54 -11.006,22.051; AE5 -10.498,-21.137; AE7 -10.498,-19.374; AE9 -10.498,-17.611; AE11 -10.498,-15.849; AE13 -10.498,-14.086; AE15 -10.498,-12.323; AE17 -10.498,-10.56; AE19 -10.498,-8.797; AE21 -10.498,-7.035; AE23 -10.498,-5.272; AE25 -10.498,-3.509; AE27 -10.498,-1.746; AE29 -10.498,0.016; AE31 -10.498,1.779; AE33 -10.498,3.542; AE35 -10.498,5.305; AE37 -10.498,7.067; AE39 -10.498,8.83; AE41 -10.498,10.593; AE43 -10.498,12.356; AE45 -10.498,14.118; AE47 -10.498,15.881; AE49 -10.498,17.644; AE51 -10.498,19.407; AE53 -10.498,21.169; AE55 -10.498,22.932; AF4 -7.79,-22.932; AF6 -9.99,-20.255; AF8 -9.99,-18.493; AF10 -9.99,-16.73; AF12 -9.99,-14.967; AF14 -9.99,-13.204; AF16 -9.99,-11.442; AF18 -9.99,-9.679; AF20 -9.99,-7.916; AF22 -9.99,-6.153; AF24 -9.99,-4.391; AF26 -9.99,-2.628; AF28 -9.99,-0.865; AF30 -9.99,0.898; AF32 -9.99,2.66; AF34 -9.99,4.423; AF36 -9.99,6.186; AF38 -9.99,7.949; AF40 -9.99,9.711; AF42 -9.99,11.474; AF44 -9.99,13.237; AF46 -9.99,15; AF48 -9.99,16.763; AF50 -9.99,18.525; AF52 -9.99,20.288; AF54 -9.99,22.051; AF56 -9.99,23.814; AG3 -7.282,-23.814; AG5 -7.282,-22.051; AG7 -9.482,-19.374; AG9 -9.482,-17.611; AG11 -9.482,-15.849; AG13 -9.482,-14.086; AG15 -9.482,-12.323; AG17 -9.482,-10.56; AG19 -9.482,-8.797; AG21 -9.482,-7.035; AG23 -9.482,-5.272; AG25 -9.482,-3.509; AG27 -9.482,-1.746; AG29 -9.482,0.016; AG31 -9.482,1.779; AG33 -9.482,3.542; AG35 -9.482,5.305; AG37 -9.482,7.067; AG39 -9.482,8.83; AG41 -9.482,10.593; AG43 -9.482,12.356; AG45 -9.482,14.118; AG47 -9.482,15.881; AG49 -9.482,17.644; AG51 -9.482,19.407; AG53 -9.482,21.169; AG55 -9.482,22.932; AG57 -9.482,24.695; AH2 -6.774,-24.695; AH4 -6.774,-22.932; AH6 -6.774,-21.169; AH8 -6.774,-19.407; AH10 -6.774,-17.644; AH12 -6.774,-15.881; AH14 -6.774,-14.118; AH16 -6.774,-12.356; AH42 -8.974,11.474; AH44 -8.974,13.237; AH46 -8.974,15; AH48 -8.974,16.763; AH50 -8.974,18.525; AH52 -8.974,20.288; AH54 -8.974,22.051; AH56 -8.974,23.814; AJ3 -6.266,-23.814; AJ5 -6.266,-22.051; AJ7 -6.266,-20.288; AJ9 -6.266,-18.525; AJ11 -6.266,-16.763; AJ13 -6.266,-15; AJ15 -6.266,-13.237; AJ17 -6.266,-11.474; AJ43 -8.466,12.356; AJ45 -8.466,14.118; AJ47 -8.466,15.881; AJ49 -8.466,17.644; AJ51 -8.466,19.407; AJ53 -8.466,21.169; AJ55 -8.466,22.932; AJ57 -8.466,24.695; AK2 -5.758,-24.695; AK4 -5.758,-22.932; AK6 -5.758,-21.169; AK8 -5.758,-19.407; AK10 -5.758,-17.644; AK12 -5.758,-15.881; AK14 -5.758,-14.118; AK16 -5.758,-12.356; AK42 -7.958,11.474; AK44 -7.958,13.237; AK46 -7.958,15; AK48 -7.958,16.763; AK50 -7.958,18.525; AK52 -7.958,20.288; AK54 -7.958,22.051; AK56 -7.958,23.814; AL3 -5.25,-23.814; AL5 -5.25,-22.051; AL7 -5.25,-20.288; AL9 -5.25,-18.525; AL11 -5.25,-16.763; AL13 -5.25,-15; AL15 -5.25,-13.237; AL17 -5.25,-11.474; AL43 -7.45,12.356; AL45 -7.45,14.118; AL47 -7.45,15.881; AL49 -7.45,17.644; AL51 -7.45,19.407; AL53 -7.45,21.169; AL55 -7.45,22.932; AL57 -7.45,24.695; AM2 -4.742,-24.695; AM4 -4.742,-22.932; AM6 -4.742,-21.169; AM8 -4.742,-19.407; AM10 -4.742,-17.644; AM12 -4.742,-15.881; AM14 -4.742,-14.118; AM16 -4.742,-12.356; AM42 -6.942,11.474; AM44 -6.942,13.237; AM46 -6.942,15; AM48 -6.942,16.763; AM50 -6.942,18.525; AM52 -6.942,20.288; AM54 -6.942,22.051; AM56 -6.942,23.814; AN3 -4.234,-23.814; AN5 -4.234,-22.051; AN7 -4.234,-20.288; AN9 -4.234,-18.525; AN11 -4.234,-16.763; AN13 -4.234,-15; AN15 -4.234,-13.237; AN17 -4.234,-11.474; AN43 -6.434,12.356; AN45 -6.434,14.118; AN47 -6.434,15.881; AN49 -6.434,17.644; AN51 -6.434,19.407; AN53 -6.434,21.169; AN55 -6.434,22.932; AN57 -6.434,24.695; AP2 -3.726,-24.695; AP4 -3.726,-22.932; AP6 -3.726,-21.169; AP8 -3.726,-19.407; AP10 -3.726,-17.644; AP12 -3.726,-15.881; AP14 -3.726,-14.118; AP16 -3.726,-12.356; AP42 -5.926,11.474; AP44 -5.926,13.237; AP46 -5.926,15; AP48 -5.926,16.763; AP50 -5.926,18.525; AP52 -5.926,20.288; AP54 -5.926,22.051; AP56 -5.926,23.814; AR3 -3.218,-23.814; AR5 -3.218,-22.051; AR7 -3.218,-20.288; AR9 -3.218,-18.525; AR11 -3.218,-16.763; AR13 -3.218,-15; AR15 -3.218,-13.237; AR17 -3.218,-11.474; AR43 -5.418,12.356; AR45 -5.418,14.118; AR47 -5.418,15.881; AR49 -5.418,17.644; AR51 -5.418,19.407; AR53 -5.418,21.169; AR55 -5.418,22.932; AR57 -5.418,24.695; AT2 -2.71,-24.695; AT4 -2.71,-22.932; AT6 -2.71,-21.169; AT8 -2.71,-19.407; AT10 -2.71,-17.644; AT12 -2.71,-15.881; AT14 -2.71,-14.118; AT16 -2.71,-12.356; AT42 -4.91,11.474; AT44 -4.91,13.237; AT46 -4.91,15; AT48 -4.91,16.763; AT50 -4.91,18.525; AT52 -4.91,20.288; AT54 -4.91,22.051; AT56 -4.91,23.814; AU3 -2.202,-23.814; AU5 -2.202,-22.051; AU7 -2.202,-20.288; AU9 -2.202,-18.525; AU11 -2.202,-16.763; AU13 -2.202,-15; AU15 -2.202,-13.237; AU17 -2.202,-11.474; AU43 -4.402,12.356; AU45 -4.402,14.118; AU47 -4.402,15.881; AU49 -4.402,17.644; AU51 -4.402,19.407; AU53 -4.402,21.169; AU55 -4.402,22.932; AU57 -4.402,24.695; AV2 -1.694,-24.695; AV4 -1.694,-22.932; AV6 -1.694,-21.169; AV8 -1.694,-19.407; AV10 -1.694,-17.644; AV12 -1.694,-15.881; AV14 -1.694,-14.118; AV16 -1.694,-12.356; AV42 -3.894,11.474; AV44 -3.894,13.237; AV46 -3.894,15; AV48 -3.894,16.763; AV50 -3.894,18.525; AV52 -3.894,20.288; AV54 -3.894,22.051; AV56 -3.894,23.814; AW3 -1.186,-23.814; AW5 -1.186,-22.051; AW7 -1.186,-20.288; AW9 -1.186,-18.525; AW11 -1.186,-16.763; AW13 -1.186,-15; AW15 -1.186,-13.237; AW17 -1.186,-11.474; AW43 -3.386,12.356; AW45 -3.386,14.118; AW47 -3.386,15.881; AW49 -3.386,17.644; AW51 -3.386,19.407; AW53 -3.386,21.169; AW55 -3.386,22.932; AW57 -3.386,24.695; AY2 -0.678,-24.695; AY4 -0.678,-22.932; AY6 -0.678,-21.169; AY8 -0.678,-19.407; AY10 -0.678,-17.644; AY12 -0.678,-15.881; AY14 -0.678,-14.118; AY16 -0.678,-12.356; AY42 -2.878,11.474; AY44 -2.878,13.237; AY46 -2.878,15; AY48 -2.878,16.763; AY50 -2.878,18.525; AY52 -2.878,20.288; AY54 -2.878,22.051; AY56 -2.878,23.814; B8 -22.182,-18.493; B10 -22.182,-16.73; B12 -22.182,-14.967; B14 -22.182,-13.204; B16 -22.182,-11.442; B18 -22.182,-9.679; B20 -22.182,-7.916; B22 -22.182,-6.153; B34 -22.182,4.423; B36 -22.182,6.186; B38 -22.182,7.949; B40 -22.182,9.711; B42 -22.182,11.474; B44 -22.182,13.237; B46 -22.182,15; B48 -22.182,16.763; B50 -22.182,18.525; BA3 -0.17,-23.814; BA5 -0.17,-22.051; BA7 -0.17,-20.288; BA9 -0.17,-18.525; BA11 -0.17,-16.763; BA13 -0.17,-15; BA15 -0.17,-13.237; BA17 -0.17,-11.474; BA43 -2.37,12.356; BA45 -2.37,14.118; BA47 -2.37,15.881; BA49 -2.37,17.644; BA51 -2.37,19.407; BA53 -2.37,21.169; BA55 -2.37,22.932; BA57 -2.37,24.695; BB2 0.338,-24.695; BB4 0.338,-22.932; BB6 0.338,-21.169; BB8 0.338,-19.407; BB10 0.338,-17.644; BB12 0.338,-15.881; BB14 0.338,-14.118; BB16 0.338,-12.356; BB42 -1.862,11.474; BB44 -1.862,13.237; BB46 -1.862,15; BB48 -1.862,16.763; BB50 -1.862,18.525; BB52 -1.862,20.288; BB54 -1.862,22.051; BB56 -1.862,23.814; BC3 0.846,-23.814; BC5 0.846,-22.051; BC7 0.846,-20.288; BC9 0.846,-18.525; BC11 0.846,-16.763; BC13 0.846,-15; BC15 0.846,-13.237; BC17 0.846,-11.474; BC43 -1.354,12.356; BC45 -1.354,14.118; BC47 -1.354,15.881; BC49 -1.354,17.644; BC51 -1.354,19.407; BC53 -1.354,21.169; BC55 -1.354,22.932; BC57 -1.354,24.695; BD2 1.354,-24.695; BD4 1.354,-22.932; BD6 1.354,-21.169; BD8 1.354,-19.407; BD10 1.354,-17.644; BD12 1.354,-15.881; BD14 1.354,-14.118; BD16 1.354,-12.356; BD42 -0.846,11.474; BD44 -0.846,13.237; BD46 -0.846,15; BD48 -0.846,16.763; BD50 -0.846,18.525; BD52 -0.846,20.288; BD54 -0.846,22.051; BD56 -0.846,23.814; BE3 1.862,-23.814; BE5 1.862,-22.051; BE7 1.862,-20.288; BE9 1.862,-18.525; BE11 1.862,-16.763; BE13 1.862,-15; BE15 1.862,-13.237; BE17 1.862,-11.474; BE43 -0.338,12.356; BE45 -0.338,14.118; BE47 -0.338,15.881; BE49 -0.338,17.644; BE51 -0.338,19.407; BE53 -0.338,21.169; BE55 -0.338,22.932; BE57 -0.338,24.695; BF2 2.37,-24.695; BF4 2.37,-22.932; BF6 2.37,-21.169; BF8 2.37,-19.407; BF10 2.37,-17.644; BF12 2.37,-15.881; BF14 2.37,-14.118; BF16 2.37,-12.356; BF42 0.17,11.474; BF44 0.17,13.237; BF46 0.17,15; BF48 0.17,16.763; BF50 0.17,18.525; BF52 0.17,20.288; BF54 0.17,22.051; BF56 0.17,23.814; BG3 2.878,-23.814; BG5 2.878,-22.051; BG7 2.878,-20.288; BG9 2.878,-18.525; BG11 2.878,-16.763; BG13 2.878,-15; BG15 2.878,-13.237; BG17 2.878,-11.474; BG43 0.678,12.356; BG45 0.678,14.118; BG47 0.678,15.881; BG49 0.678,17.644; BG51 0.678,19.407; BG53 0.678,21.169; BG55 0.678,22.932; BG57 0.678,24.695; BH2 3.386,-24.695; BH4 3.386,-22.932; BH6 3.386,-21.169; BH8 3.386,-19.407; BH10 3.386,-17.644; BH12 3.386,-15.881; BH14 3.386,-14.118; BH16 3.386,-12.356; BH42 1.186,11.474; BH44 1.186,13.237; BH46 1.186,15; BH48 1.186,16.763; BH50 1.186,18.525; BH52 1.186,20.288; BH54 1.186,22.051; BH56 1.186,23.814; BJ3 3.894,-23.814; BJ5 3.894,-22.051; BJ7 3.894,-20.288; BJ9 3.894,-18.525; BJ11 3.894,-16.763; BJ13 3.894,-15; BJ15 3.894,-13.237; BJ17 3.894,-11.474; BJ43 1.694,12.356; BJ45 1.694,14.118; BJ47 1.694,15.881; BJ49 1.694,17.644; BJ51 1.694,19.407; BJ53 1.694,21.169; BJ55 1.694,22.932; BJ57 1.694,24.695; BK2 4.402,-24.695; BK4 4.402,-22.932; BK6 4.402,-21.169; BK8 4.402,-19.407; BK10 4.402,-17.644; BK12 4.402,-15.881; BK14 4.402,-14.118; BK16 4.402,-12.356; BK42 2.202,11.474; BK44 2.202,13.237; BK46 2.202,15; BK48 2.202,16.763; BK50 2.202,18.525; BK52 2.202,20.288; BK54 2.202,22.051; BK56 2.202,23.814; BL3 4.91,-23.814; BL5 4.91,-22.051; BL7 4.91,-20.288; BL9 4.91,-18.525; BL11 4.91,-16.763; BL13 4.91,-15; BL15 4.91,-13.237; BL17 4.91,-11.474; BL43 2.71,12.356; BL45 2.71,14.118; BL47 2.71,15.881; BL49 2.71,17.644; BL51 2.71,19.407; BL53 2.71,21.169; BL55 2.71,22.932; BL57 2.71,24.695; BM2 5.418,-24.695; BM4 5.418,-22.932; BM6 5.418,-21.169; BM8 5.418,-19.407; BM10 5.418,-17.644; BM12 5.418,-15.881; BM14 5.418,-14.118; BM16 5.418,-12.356; BM42 3.218,11.474; BM44 3.218,13.237; BM46 3.218,15; BM48 3.218,16.763; BM50 3.218,18.525; BM52 3.218,20.288; BM54 3.218,22.051; BM56 3.218,23.814; BN3 5.926,-23.814; BN5 5.926,-22.051; BN7 5.926,-20.288; BN9 5.926,-18.525; BN11 5.926,-16.763; BN13 5.926,-15; BN15 5.926,-13.237; BN17 5.926,-11.474; BN43 3.726,12.356; BN45 3.726,14.118; BN47 3.726,15.881; BN49 3.726,17.644; BN51 3.726,19.407; BN53 3.726,21.169; BN55 3.726,22.932; BN57 3.726,24.695; BP2 6.434,-24.695; BP4 6.434,-22.932; BP6 6.434,-21.169; BP8 6.434,-19.407; BP10 6.434,-17.644; BP12 6.434,-15.881; BP14 6.434,-14.118; BP16 6.434,-12.356; BP42 4.234,11.474; BP44 4.234,13.237; BP46 4.234,15; BP48 4.234,16.763; BP50 4.234,18.525; BP52 4.234,20.288; BP54 4.234,22.051; BP56 4.234,23.814; BR3 6.942,-23.814; BR5 6.942,-22.051; BR7 6.942,-20.288; BR9 6.942,-18.525; BR11 6.942,-16.763; BR13 6.942,-15; BR15 6.942,-13.237; BR17 6.942,-11.474; BR43 4.742,12.356; BR45 4.742,14.118; BR47 4.742,15.881; BR49 4.742,17.644; BR51 4.742,19.407; BR53 4.742,21.169; BR55 4.742,22.932; BR57 4.742,24.695; BT2 7.45,-24.695; BT4 7.45,-22.932; BT6 7.45,-21.169; BT8 7.45,-19.407; BT10 7.45,-17.644; BT12 7.45,-15.881; BT14 7.45,-14.118; BT16 7.45,-12.356; BT42 5.25,11.474; BT44 5.25,13.237; BT46 5.25,15; BT48 5.25,16.763; BT50 5.25,18.525; BT52 5.25,20.288; BT54 5.25,22.051; BT56 5.25,23.814; BU3 7.958,-23.814; BU5 7.958,-22.051; BU7 7.958,-20.288; BU9 7.958,-18.525; BU11 7.958,-16.763; BU13 7.958,-15; BU15 7.958,-13.237; BU17 7.958,-11.474; BU43 5.758,12.356; BU45 5.758,14.118; BU47 5.758,15.881; BU49 5.758,17.644; BU51 5.758,19.407; BU53 5.758,21.169; BU55 5.758,22.932; BU57 5.758,24.695; BV2 8.466,-24.695; BV4 8.466,-22.932; BV6 8.466,-21.169; BV8 8.466,-19.407; BV10 8.466,-17.644; BV12 8.466,-15.881; BV14 8.466,-14.118; BV16 8.466,-12.356; BV42 6.266,11.474; BV44 6.266,13.237; BV46 6.266,15; BV48 6.266,16.763; BV50 6.266,18.525; BV52 6.266,20.288; BV54 6.266,22.051; BV56 6.266,23.814; BW3 8.974,-23.814; BW5 8.974,-22.051; BW7 8.974,-20.288; BW9 8.974,-18.525; BW11 8.974,-16.763; BW13 8.974,-15; BW15 8.974,-13.237; BW17 8.974,-11.474; BW43 6.774,12.356; BW45 6.774,14.118; BW47 6.774,15.881; BW49 6.774,17.644; BW51 6.774,19.407; BW53 6.774,21.169; BW55 6.774,22.932; BW57 6.774,24.695; BY2 9.482,-24.695; BY4 9.482,-22.932; BY6 9.482,-21.169; BY8 9.482,-19.407; BY10 9.482,-17.644; BY12 9.482,-15.881; BY14 9.482,-14.118; BY16 9.482,-12.356; BY18 9.482,-10.593; BY20 9.482,-8.83; BY22 9.482,-7.067; BY24 9.482,-5.305; BY26 9.482,-3.542; BY28 9.482,-1.779; BY30 9.482,-0.016; BY32 9.482,1.746; BY34 9.482,3.509; BY36 9.482,5.272; BY38 9.482,7.035; BY40 9.482,8.797; BY42 9.482,10.56; BY44 9.482,12.323; BY46 9.482,14.086; BY48 9.482,15.849; BY50 9.482,17.611; BY52 9.482,19.374; BY54 7.282,22.051; BY56 7.282,23.814; C7 -21.674,-19.374; C9 -21.674,-17.611; C11 -21.674,-15.849; C13 -21.674,-14.086; C15 -21.674,-12.323; C17 -21.674,-10.56; C19 -21.674,-8.797; C21 -21.674,-7.035; C23 -21.674,-5.272; C33 -21.674,3.542; C35 -21.674,5.305; C37 -21.674,7.067; C39 -21.674,8.83; C41 -21.674,10.593; C43 -21.674,12.356; C45 -21.674,14.118; C47 -21.674,15.881; C49 -21.674,17.644; C51 -21.674,19.407; CA3 9.99,-23.814; CA5 9.99,-22.051; CA7 9.99,-20.288; CA9 9.99,-18.525; CA11 9.99,-16.763; CA13 9.99,-15; CA15 9.99,-13.237; CA17 9.99,-11.474; CA19 9.99,-9.711; CA21 9.99,-7.949; CA23 9.99,-6.186; CA25 9.99,-4.423; CA27 9.99,-2.66; CA29 9.99,-0.898; CA31 9.99,0.865; CA33 9.99,2.628; CA35 9.99,4.391; CA37 9.99,6.153; CA39 9.99,7.916; CA41 9.99,9.679; CA43 9.99,11.442; CA45 9.99,13.204; CA47 9.99,14.967; CA49 9.99,16.73; CA51 9.99,18.493; CA53 9.99,20.255; CA55 7.79,22.932; CB4 10.498,-22.932; CB6 10.498,-21.169; CB8 10.498,-19.407; CB10 10.498,-17.644; CB12 10.498,-15.881; CB14 10.498,-14.118; CB16 10.498,-12.356; CB18 10.498,-10.593; CB20 10.498,-8.83; CB22 10.498,-7.067; CB24 10.498,-5.305; CB26 10.498,-3.542; CB28 10.498,-1.779; CB30 10.498,-0.016; CB32 10.498,1.746; CB34 10.498,3.509; CB36 10.498,5.272; CB38 10.498,7.035; CB40 10.498,8.797; CB42 10.498,10.56; CB44 10.498,12.323; CB46 10.498,14.086; CB48 10.498,15.849; CB50 10.498,17.611; CB52 10.498,19.374; CB54 10.498,21.137; CC5 11.006,-22.051; CC7 11.006,-20.288; CC9 11.006,-18.525; CC11 11.006,-16.763; CC13 11.006,-15; CC15 11.006,-13.237; CC17 11.006,-11.474; CC19 11.006,-9.711; CC21 11.006,-7.949; CC23 11.006,-6.186; CC25 11.006,-4.423; CC27 11.006,-2.66; CC29 11.006,-0.898; CC31 11.006,0.865; CC33 11.006,2.628; CC35 11.006,4.391; CC37 11.006,6.153; CC39 11.006,7.916; CC41 11.006,9.679; CC43 11.006,11.442; CC45 11.006,13.204; CC47 11.006,14.967; CC49 11.006,16.73; CC51 11.006,18.493; CC53 11.006,20.255; CC55 11.006,22.018; CD4 11.514,-22.932; CD6 11.514,-21.169; CD8 11.514,-19.407; CD10 11.514,-17.644; CD12 11.514,-15.881; CD14 11.514,-14.118; CD16 11.514,-12.356; CD18 11.514,-10.593; CD20 11.514,-8.83; CD22 11.514,-7.067; CD24 11.514,-5.305; CD26 11.514,-3.542; CD28 11.514,-1.779; CD30 11.514,-0.016; CD32 11.514,1.746; CD34 11.514,3.509; CD36 11.514,5.272; CD38 11.514,7.035; CD40 11.514,8.797; CD42 11.514,10.56; CD44 11.514,12.323; CD46 11.514,14.086; CD48 11.514,15.849; CD50 11.514,17.611; CD52 11.514,19.374; CD54 11.514,21.137; CE5 12.022,-22.051; CE7 12.022,-20.288; CE9 12.022,-18.525; CE11 12.022,-16.763; CE13 12.022,-15; CE15 12.022,-13.237; CE17 12.022,-11.474; CE19 12.022,-9.711; CE21 12.022,-7.949; CE23 12.022,-6.186; CE25 12.022,-4.423; CE27 12.022,-2.66; CE29 12.022,-0.898; CE31 12.022,0.865; CE33 12.022,2.628; CE35 12.022,4.391; CE37 12.022,6.153; CE39 12.022,7.916; CE41 12.022,9.679; CE43 12.022,11.442; CE45 12.022,13.204; CE47 12.022,14.967; CE49 12.022,16.73; CE51 12.022,18.493; CE53 12.022,20.255; CE55 12.022,22.018; CF4 12.53,-22.932; CF6 12.53,-21.169; CF8 12.53,-19.407; CF10 12.53,-17.644; CF12 12.53,-15.881; CF14 12.53,-14.118; CF16 12.53,-12.356; CF18 12.53,-10.593; CF20 12.53,-8.83; CF22 12.53,-7.067; CF24 12.53,-5.305; CF26 12.53,-3.542; CF28 12.53,-1.779; CF30 12.53,-0.016; CF32 12.53,1.746; CF34 12.53,3.509; CF36 12.53,5.272; CF38 12.53,7.035; CF40 12.53,8.797; CF42 12.53,10.56; CF44 12.53,12.323; CF46 12.53,14.086; CF48 12.53,15.849; CF50 12.53,17.611; CF52 12.53,19.374; CF54 12.53,21.137; CG5 13.038,-22.051; CG7 13.038,-20.288; CG9 13.038,-18.525; CG11 13.038,-16.763; CG13 13.038,-15; CG15 13.038,-13.237; CG17 13.038,-11.474; CG19 13.038,-9.711; CG21 13.038,-7.949; CG23 13.038,-6.186; CG25 13.038,-4.423; CG27 13.038,-2.66; CG29 13.038,-0.898; CG31 13.038,0.865; CG33 13.038,2.628; CG35 13.038,4.391; CG37 13.038,6.153; CG39 13.038,7.916; CG41 13.038,9.679; CG43 13.038,11.442; CG45 13.038,13.204; CG47 13.038,14.967; CG49 13.038,16.73; CG51 13.038,18.493; CG53 13.038,20.255; CG55 13.038,22.018; CH4 13.546,-22.932; CH6 13.546,-21.169; CH8 13.546,-19.407; CH10 13.546,-17.644; CH12 13.546,-15.881; CH14 13.546,-14.118; CH16 13.546,-12.356; CH18 13.546,-10.593; CH20 13.546,-8.83; CH22 13.546,-7.067; CH24 13.546,-5.305; CH26 13.546,-3.542; CH28 13.546,-1.779; CH30 13.546,-0.016; CH32 13.546,1.746; CH34 13.546,3.509; CH36 13.546,5.272; CH38 13.546,7.035; CH40 13.546,8.797; CH42 13.546,10.56; CH44 13.546,12.323; CH46 13.546,14.086; CH48 13.546,15.849; CH50 13.546,17.611; CH52 13.546,19.374; CH54 13.546,21.137; CJ5 14.054,-22.051; CJ7 14.054,-20.288; CJ9 14.054,-18.525; CJ11 14.054,-16.763; CJ13 14.054,-15; CJ15 14.054,-13.237; CJ17 14.054,-11.474; CJ19 14.054,-9.711; CJ21 14.054,-7.949; CJ23 14.054,-6.186; CJ25 14.054,-4.423; CJ27 14.054,-2.66; CJ29 14.054,-0.898; CJ31 14.054,0.865; CJ33 14.054,2.628; CJ35 14.054,4.391; CJ37 14.054,6.153; CJ39 14.054,7.916; CJ41 14.054,9.679; CJ43 14.054,11.442; CJ45 14.054,13.204; CJ47 14.054,14.967; CJ49 14.054,16.73; CJ51 14.054,18.493; CJ53 14.054,20.255; CJ55 14.054,22.018; CK4 14.562,-22.932; CK6 14.562,-21.169; CK8 14.562,-19.407; CK10 14.562,-17.644; CK12 14.562,-15.881; CK14 14.562,-14.118; CK16 14.562,-12.356; CK18 14.562,-10.593; CK20 14.562,-8.83; CK22 14.562,-7.067; CK24 14.562,-5.305; CK26 14.562,-3.542; CK28 14.562,-1.779; CK30 14.562,-0.016; CK32 14.562,1.746; CK34 14.562,3.509; CK36 14.562,5.272; CK38 14.562,7.035; CK40 14.562,8.797; CK42 14.562,10.56; CK44 14.562,12.323; CK46 14.562,14.086; CK48 14.562,15.849; CK50 14.562,17.611; CK52 14.562,19.374; CK54 14.562,21.137; CL5 15.07,-22.051; CL7 15.07,-20.288; CL9 15.07,-18.525; CL11 15.07,-16.763; CL13 15.07,-15; CL15 15.07,-13.237; CL17 15.07,-11.474; CL19 15.07,-9.711; CL21 15.07,-7.949; CL23 15.07,-6.186; CL25 15.07,-4.423; CL27 15.07,-2.66; CL29 15.07,-0.898; CL31 15.07,0.865; CL33 15.07,2.628; CL35 15.07,4.391; CL37 15.07,6.153; CL39 15.07,7.916; CL41 15.07,9.679; CL43 15.07,11.442; CL45 15.07,13.204; CL47 15.07,14.967; CL49 15.07,16.73; CL51 15.07,18.493; CL53 15.07,20.255; CL55 15.07,22.018; CM4 15.578,-22.932; CM6 15.578,-21.169; CM8 15.578,-19.407; CM10 15.578,-17.644; CM12 15.578,-15.881; CM14 15.578,-14.118; CM16 15.578,-12.356; CM18 15.578,-10.593; CM20 15.578,-8.83; CM22 15.578,-7.067; CM24 15.578,-5.305; CM26 15.578,-3.542; CM28 15.578,-1.779; CM30 15.578,-0.016; CM32 15.578,1.746; CM34 15.578,3.509; CM36 15.578,5.272; CM38 15.578,7.035; CM40 15.578,8.797; CM42 15.578,10.56; CM44 15.578,12.323; CM46 15.578,14.086; CM48 15.578,15.849; CM50 15.578,17.611; CM52 15.578,19.374; CM54 15.578,21.137; CN5 16.086,-22.051; CN7 16.086,-20.288; CN9 16.086,-18.525; CN11 16.086,-16.763; CN13 16.086,-15; CN15 16.086,-13.237; CN17 16.086,-11.474; CN19 16.086,-9.711; CN21 16.086,-7.949; CN23 16.086,-6.186; CN25 16.086,-4.423; CN27 16.086,-2.66; CN29 16.086,-0.898; CN31 16.086,0.865; CN33 16.086,2.628; CN35 16.086,4.391; CN37 16.086,6.153; CN39 16.086,7.916; CN41 16.086,9.679; CN43 16.086,11.442; CN45 16.086,13.204; CN47 16.086,14.967; CN49 16.086,16.73; CN51 16.086,18.493; CN53 16.086,20.255; CN55 16.086,22.018; CP4 16.594,-22.932; CP6 16.594,-21.169; CP8 16.594,-19.407; CP10 16.594,-17.644; CP12 16.594,-15.881; CP14 16.594,-14.118; CP16 16.594,-12.356; CP18 16.594,-10.593; CP20 16.594,-8.83; CP22 16.594,-7.067; CP24 16.594,-5.305; CP26 16.594,-3.542; CP28 16.594,-1.779; CP30 16.594,-0.016; CP32 16.594,1.746; CP34 16.594,3.509; CP36 16.594,5.272; CP38 16.594,7.035; CP40 16.594,8.797; CP42 16.594,10.56; CP44 16.594,12.323; CP46 16.594,14.086; CP48 16.594,15.849; CP50 16.594,17.611; CP52 16.594,19.374; CP54 16.594,21.137; CP56 16.594,22.9; CR3 17.102,-23.814; CR5 17.102,-22.051; CR7 17.102,-20.288; CR9 17.102,-18.525; CR11 17.102,-16.763; CR13 17.102,-15; CR15 17.102,-13.237; CR17 17.102,-11.474; CR19 17.102,-9.711; CR21 17.102,-7.949; CR23 17.102,-6.186; CR25 17.102,-4.423; CR27 17.102,-2.66; CR29 17.102,-0.898; CR31 17.102,0.865; CR33 17.102,2.628; CR35 17.102,4.391; CR37 17.102,6.153; CR39 17.102,7.916; CR41 17.102,9.679; CR43 17.102,11.442; CR45 17.102,13.204; CR47 17.102,14.967; CR49 17.102,16.73; CR51 17.102,18.493; CR53 17.102,20.255; CR55 17.102,22.018; CR57 17.102,23.781; CT2 17.61,-24.695; CT4 17.61,-22.932; CT6 17.61,-21.169; CT8 17.61,-19.407; CT10 17.61,-17.644; CT12 17.61,-15.881; CT14 17.61,-14.118; CT16 17.61,-12.356; CT18 17.61,-10.593; CT20 17.61,-8.83; CT22 17.61,-7.067; CT24 17.61,-5.305; CT26 17.61,-3.542; CT28 17.61,-1.779; CT30 17.61,-0.016; CT32 17.61,1.746; CT34 17.61,3.509; CT36 17.61,5.272; CT38 17.61,7.035; CT40 17.61,8.797; CT42 17.61,10.56; CT44 17.61,12.323; CT46 17.61,14.086; CT48 17.61,15.849; CT50 17.61,17.611; CT52 17.61,19.374; CT54 17.61,21.137; CT56 17.61,22.9; CU3 18.118,-23.814; CU5 18.118,-22.051; CU7 18.118,-20.288; CU9 18.118,-18.525; CU11 18.118,-16.763; CU13 18.118,-15; CU15 18.118,-13.237; CU17 18.118,-11.474; CU19 18.118,-9.711; CU21 18.118,-7.949; CU23 18.118,-6.186; CU25 18.118,-4.423; CU27 18.118,-2.66; CU29 18.118,-0.898; CU31 18.118,0.865; CU33 18.118,2.628; CU35 18.118,4.391; CU37 18.118,6.153; CU39 18.118,7.916; CU41 18.118,9.679; CU43 18.118,11.442; CU45 18.118,13.204; CU47 18.118,14.967; CU49 18.118,16.73; CU51 18.118,18.493; CU53 18.118,20.255; CU55 18.118,22.018; CU57 18.118,23.781; CV2 18.626,-24.695; CV4 18.626,-22.932; CV6 18.626,-21.169; CV8 18.626,-19.407; CV10 18.626,-17.644; CV12 18.626,-15.881; CV14 18.626,-14.118; CV16 18.626,-12.356; CV18 18.626,-10.593; CV20 18.626,-8.83; CV22 18.626,-7.067; CV24 18.626,-5.305; CV26 18.626,-3.542; CV28 18.626,-1.779; CV30 18.626,-0.016; CV32 18.626,1.746; CV34 18.626,3.509; CV36 18.626,5.272; CV38 18.626,7.035; CV40 18.626,8.797; CV42 18.626,10.56; CV44 18.626,12.323; CV46 18.626,14.086; CV48 18.626,15.849; CV50 18.626,17.611; CV52 18.626,19.374; CV54 18.626,21.137; CV56 18.626,22.9; CW3 19.134,-23.814; CW5 19.134,-22.051; CW7 19.134,-20.288; CW9 19.134,-18.525; CW11 19.134,-16.763; CW13 19.134,-15; CW15 19.134,-13.237; CW17 19.134,-11.474; CW19 19.134,-9.711; CW21 19.134,-7.949; CW23 19.134,-6.186; CW25 19.134,-4.423; CW27 19.134,-2.66; CW29 19.134,-0.898; CW31 19.134,0.865; CW33 19.134,2.628; CW35 19.134,4.391; CW37 19.134,6.153; CW39 19.134,7.916; CW41 19.134,9.679; CW43 19.134,11.442; CW45 19.134,13.204; CW47 19.134,14.967; CW49 19.134,16.73; CW51 19.134,18.493; CW53 19.134,20.255; CW55 19.134,22.018; CW57 19.134,23.781; CY4 19.642,-22.932; CY6 19.642,-21.169; CY8 19.642,-19.407; CY10 19.642,-17.644; CY12 19.642,-15.881; CY14 19.642,-14.118; CY16 19.642,-12.356; CY18 19.642,-10.593; CY20 19.642,-8.83; CY22 19.642,-7.067; CY24 19.642,-5.305; CY26 19.642,-3.542; CY28 19.642,-1.779; CY30 19.642,-0.016; CY32 19.642,1.746; CY34 19.642,3.509; CY36 19.642,5.272; CY38 19.642,7.035; CY40 19.642,8.797; CY42 19.642,10.56; CY44 19.642,12.323; CY46 19.642,14.086; CY48 19.642,15.849; CY50 19.642,17.611; CY52 19.642,19.374; CY54 19.642,21.137; CY56 19.642,22.9; D6 -21.166,-20.255; D8 -21.166,-18.493; D10 -21.166,-16.73; D12 -21.166,-14.967; D14 -21.166,-13.204; D16 -21.166,-11.442; D18 -21.166,-9.679; D20 -21.166,-7.916; D22 -21.166,-6.153; D24 -21.166,-4.391; D32 -21.166,2.66; D34 -21.166,4.423; D36 -21.166,6.186; D38 -21.166,7.949; D40 -21.166,9.711; D42 -21.166,11.474; D44 -21.166,13.237; D46 -21.166,15; D48 -21.166,16.763; D50 -21.166,18.525; D52 -21.166,20.288; D54 -21.166,22.051; DA5 20.15,-22.051; DA7 20.15,-20.288; DA9 20.15,-18.525; DA11 20.15,-16.763; DA13 20.15,-15; DA15 20.15,-13.237; DA17 20.15,-11.474; DA19 20.15,-9.711; DA21 20.15,-7.949; DA23 20.15,-6.186; DA25 20.15,-4.423; DA27 20.15,-2.66; DA31 20.15,0.865; DA33 20.15,2.628; DA35 20.15,4.391; DA37 20.15,6.153; DA39 20.15,7.916; DA41 20.15,9.679; DA43 20.15,11.442; DA45 20.15,13.204; DA47 20.15,14.967; DA49 20.15,16.73; DA51 20.15,18.493; DA53 20.15,20.255; DA55 20.15,22.018; DB6 20.658,-21.169; DB8 20.658,-19.407; DB10 20.658,-17.644; DB12 20.658,-15.881; DB14 20.658,-14.118; DB16 20.658,-12.356; DB18 20.658,-10.593; DB20 20.658,-8.83; DB22 20.658,-7.067; DB24 20.658,-5.305; DB26 20.658,-3.542; DB32 20.658,1.746; DB34 20.658,3.509; DB36 20.658,5.272; DB38 20.658,7.035; DB40 20.658,8.797; DB42 20.658,10.56; DB44 20.658,12.323; DB46 20.658,14.086; DB48 20.658,15.849; DB50 20.658,17.611; DB52 20.658,19.374; DB54 20.658,21.137; DC7 21.166,-20.288; DC9 21.166,-18.525; DC11 21.166,-16.763; DC13 21.166,-15; DC15 21.166,-13.237; DC17 21.166,-11.474; DC19 21.166,-9.711; DC21 21.166,-7.949; DC23 21.166,-6.186; DC25 21.166,-4.423; DC33 21.166,2.628; DC35 21.166,4.391; DC37 21.166,6.153; DC39 21.166,7.916; DC41 21.166,9.679; DC43 21.166,11.442; DC45 21.166,13.204; DC47 21.166,14.967; DC49 21.166,16.73; DC51 21.166,18.493; DC53 21.166,20.255; DD8 21.674,-19.407; DD10 21.674,-17.644; DD12 21.674,-15.881; DD14 21.674,-14.118; DD16 21.674,-12.356; DD18 21.674,-10.593; DD20 21.674,-8.83; DD22 21.674,-7.067; DD24 21.674,-5.305; DD26 21.674,-3.542; DD34 21.674,3.509; DD36 21.674,5.272; DD38 21.674,7.035; DD40 21.674,8.797; DD42 21.674,10.56; DD44 21.674,12.323; DD46 21.674,14.086; DD48 21.674,15.849; DD50 21.674,17.611; DD52 21.674,19.374; DE9 22.182,-18.525; DE11 22.182,-16.763; DE13 22.182,-15; DE15 22.182,-13.237; DE17 22.182,-11.474; DE19 22.182,-9.711; DE21 22.182,-7.949; DE23 22.182,-6.186; DE25 22.182,-4.423; DE35 22.182,4.391; DE37 22.182,6.153; DE39 22.182,7.916; DE41 22.182,9.679; DE43 22.182,11.442; DE45 22.182,13.204; DE47 22.182,14.967; DE49 22.182,16.73; DE51 22.182,18.493; E5 -20.658,-21.137; E7 -20.658,-19.374; E9 -20.658,-17.611; E11 -20.658,-15.849; E13 -20.658,-14.086; E15 -20.658,-12.323; E17 -20.658,-10.56; E19 -20.658,-8.797; E21 -20.658,-7.035; E23 -20.658,-5.272; E25 -20.658,-3.509; E31 -20.658,1.779; E33 -20.658,3.542; E35 -20.658,5.305; E37 -20.658,7.067; E39 -20.658,8.83; E41 -20.658,10.593; E43 -20.658,12.356; E45 -20.658,14.118; E47 -20.658,15.881; E49 -20.658,17.644; E51 -20.658,19.407; E53 -20.658,21.169; E55 -20.658,22.932; F4 -20.15,-22.018; F6 -20.15,-20.255; F8 -20.15,-18.493; F10 -20.15,-16.73; F12 -20.15,-14.967; F14 -20.15,-13.204; F16 -20.15,-11.442; F18 -20.15,-9.679; F20 -20.15,-7.916; F22 -20.15,-6.153; F24 -20.15,-4.391; F26 -20.15,-2.628; F28 -20.15,-0.865; F30 -20.15,0.898; F32 -20.15,2.66; F34 -20.15,4.423; F36 -20.15,6.186; F38 -20.15,7.949; F40 -20.15,9.711; F42 -20.15,11.474; F44 -20.15,13.237; F46 -20.15,15; F48 -20.15,16.763; F50 -20.15,18.525; F52 -20.15,20.288; F54 -20.15,22.051; F56 -20.15,23.814; G3 -19.642,-22.9; G5 -19.642,-21.137; G7 -19.642,-19.374; G9 -19.642,-17.611; G11 -19.642,-15.849; G13 -19.642,-14.086; G15 -19.642,-12.323; G17 -19.642,-10.56; G19 -19.642,-8.797; G21 -19.642,-7.035; G23 -19.642,-5.272; G25 -19.642,-3.509; G27 -19.642,-1.746; G29 -19.642,0.016; G31 -19.642,1.779; G33 -19.642,3.542; G35 -19.642,5.305; G37 -19.642,7.067; G39 -19.642,8.83; G41 -19.642,10.593; G43 -19.642,12.356; G45 -19.642,14.118; G47 -19.642,15.881; G49 -19.642,17.644; G51 -19.642,19.407; G53 -19.642,21.169; G55 -19.642,22.932; H2 -19.134,-23.781; H4 -19.134,-22.018; H6 -19.134,-20.255; H8 -19.134,-18.493; H10 -19.134,-16.73; H12 -19.134,-14.967; H14 -19.134,-13.204; H16 -19.134,-11.442; H18 -19.134,-9.679; H20 -19.134,-7.916; H22 -19.134,-6.153; H24 -19.134,-4.391; H26 -19.134,-2.628; H28 -19.134,-0.865; H30 -19.134,0.898; H32 -19.134,2.66; H34 -19.134,4.423; H36 -19.134,6.186; H38 -19.134,7.949; H40 -19.134,9.711; H42 -19.134,11.474; H44 -19.134,13.237; H46 -19.134,15; H48 -19.134,16.763; H50 -19.134,18.525; H52 -19.134,20.288; H54 -19.134,22.051; H56 -19.134,23.814; J3 -18.626,-22.9; J5 -18.626,-21.137; J7 -18.626,-19.374; J9 -18.626,-17.611; J11 -18.626,-15.849; J13 -18.626,-14.086; J15 -18.626,-12.323; J17 -18.626,-10.56; J19 -18.626,-8.797; J21 -18.626,-7.035; J23 -18.626,-5.272; J25 -18.626,-3.509; J27 -18.626,-1.746; J29 -18.626,0.016; J31 -18.626,1.779; J33 -18.626,3.542; J35 -18.626,5.305; J37 -18.626,7.067; J39 -18.626,8.83; J41 -18.626,10.593; J43 -18.626,12.356; J45 -18.626,14.118; J47 -18.626,15.881; J49 -18.626,17.644; J51 -18.626,19.407; J53 -18.626,21.169; J55 -18.626,22.932; J57 -18.626,24.695; K2 -18.118,-23.781; K4 -18.118,-22.018; K6 -18.118,-20.255; K8 -18.118,-18.493; K10 -18.118,-16.73; K12 -18.118,-14.967; K14 -18.118,-13.204; K16 -18.118,-11.442; K18 -18.118,-9.679; K20 -18.118,-7.916; K22 -18.118,-6.153; K24 -18.118,-4.391; K26 -18.118,-2.628; K28 -18.118,-0.865; K30 -18.118,0.898; K32 -18.118,2.66; K34 -18.118,4.423; K36 -18.118,6.186; K38 -18.118,7.949; K40 -18.118,9.711; K42 -18.118,11.474; K44 -18.118,13.237; K46 -18.118,15; K48 -18.118,16.763; K50 -18.118,18.525; K52 -18.118,20.288; K54 -18.118,22.051; K56 -18.118,23.814; L3 -17.61,-22.9; L5 -17.61,-21.137; L7 -17.61,-19.374; L9 -17.61,-17.611; L11 -17.61,-15.849; L13 -17.61,-14.086; L15 -17.61,-12.323; L17 -17.61,-10.56; L19 -17.61,-8.797; L21 -17.61,-7.035; L23 -17.61,-5.272; L25 -17.61,-3.509; L27 -17.61,-1.746; L29 -17.61,0.016; L31 -17.61,1.779; L33 -17.61,3.542; L35 -17.61,5.305; L37 -17.61,7.067; L39 -17.61,8.83; L41 -17.61,10.593; L43 -17.61,12.356; L45 -17.61,14.118; L47 -17.61,15.881; L49 -17.61,17.644; L51 -17.61,19.407; L53 -17.61,21.169; L55 -17.61,22.932; M4 -17.102,-22.018; M6 -17.102,-20.255; M8 -17.102,-18.493; M10 -17.102,-16.73; M12 -17.102,-14.967; M14 -17.102,-13.204; M16 -17.102,-11.442; M18 -17.102,-9.679; M20 -17.102,-7.916; M22 -17.102,-6.153; M24 -17.102,-4.391; M26 -17.102,-2.628; M28 -17.102,-0.865; M30 -17.102,0.898; M32 -17.102,2.66; M34 -17.102,4.423; M36 -17.102,6.186; M38 -17.102,7.949; M40 -17.102,9.711; M42 -17.102,11.474; M44 -17.102,13.237; M46 -17.102,15; M48 -17.102,16.763; M50 -17.102,18.525; M52 -17.102,20.288; M54 -17.102,22.051; N5 -16.594,-21.137; N7 -16.594,-19.374; N9 -16.594,-17.611; N11 -16.594,-15.849; N13 -16.594,-14.086; N15 -16.594,-12.323; N17 -16.594,-10.56; N19 -16.594,-8.797; N21 -16.594,-7.035; N23 -16.594,-5.272; N25 -16.594,-3.509; N27 -16.594,-1.746; N29 -16.594,0.016; N31 -16.594,1.779; N33 -16.594,3.542; N35 -16.594,5.305; N37 -16.594,7.067; N39 -16.594,8.83; N41 -16.594,10.593; N43 -16.594,12.356; N45 -16.594,14.118; N47 -16.594,15.881; N49 -16.594,17.644; N51 -16.594,19.407; N53 -16.594,21.169; N55 -16.594,22.932; P4 -16.086,-22.018; P6 -16.086,-20.255; P8 -16.086,-18.493; P10 -16.086,-16.73; P12 -16.086,-14.967; P14 -16.086,-13.204; P16 -16.086,-11.442; P18 -16.086,-9.679; P20 -16.086,-7.916; P22 -16.086,-6.153; P24 -16.086,-4.391; P26 -16.086,-2.628; P28 -16.086,-0.865; P30 -16.086,0.898; P32 -16.086,2.66; P34 -16.086,4.423; P36 -16.086,6.186; P38 -16.086,7.949; P40 -16.086,9.711; P42 -16.086,11.474; P44 -16.086,13.237; P46 -16.086,15; P48 -16.086,16.763; P50 -16.086,18.525; P52 -16.086,20.288; P54 -16.086,22.051; R5 -15.578,-21.137; R7 -15.578,-19.374; R9 -15.578,-17.611; R11 -15.578,-15.849; R13 -15.578,-14.086; R15 -15.578,-12.323; R17 -15.578,-10.56; R19 -15.578,-8.797; R21 -15.578,-7.035; R23 -15.578,-5.272; R25 -15.578,-3.509; R27 -15.578,-1.746; R29 -15.578,0.016; R31 -15.578,1.779; R33 -15.578,3.542; R35 -15.578,5.305; R37 -15.578,7.067; R39 -15.578,8.83; R41 -15.578,10.593; R43 -15.578,12.356; R45 -15.578,14.118; R47 -15.578,15.881; R49 -15.578,17.644; R51 -15.578,19.407; R53 -15.578,21.169; R55 -15.578,22.932; T4 -15.07,-22.018; T6 -15.07,-20.255; T8 -15.07,-18.493; T10 -15.07,-16.73; T12 -15.07,-14.967; T14 -15.07,-13.204; T16 -15.07,-11.442; T18 -15.07,-9.679; T20 -15.07,-7.916; T22 -15.07,-6.153; T24 -15.07,-4.391; T26 -15.07,-2.628; T28 -15.07,-0.865; T30 -15.07,0.898; T32 -15.07,2.66; T34 -15.07,4.423; T36 -15.07,6.186; T38 -15.07,7.949; T40 -15.07,9.711; T42 -15.07,11.474; T44 -15.07,13.237; T46 -15.07,15; T48 -15.07,16.763; T50 -15.07,18.525; T52 -15.07,20.288; T54 -15.07,22.051; U5 -14.562,-21.137; U7 -14.562,-19.374; U9 -14.562,-17.611; U11 -14.562,-15.849; U13 -14.562,-14.086; U15 -14.562,-12.323; U17 -14.562,-10.56; U19 -14.562,-8.797; U21 -14.562,-7.035; U23 -14.562,-5.272; U25 -14.562,-3.509; U27 -14.562,-1.746; U29 -14.562,0.016; U31 -14.562,1.779; U33 -14.562,3.542; U35 -14.562,5.305; U37 -14.562,7.067; U39 -14.562,8.83; U41 -14.562,10.593; U43 -14.562,12.356; U45 -14.562,14.118; U47 -14.562,15.881; U49 -14.562,17.644; U51 -14.562,19.407; U53 -14.562,21.169; U55 -14.562,22.932; V4 -14.054,-22.018; V6 -14.054,-20.255; V8 -14.054,-18.493; V10 -14.054,-16.73; V12 -14.054,-14.967; V14 -14.054,-13.204; V16 -14.054,-11.442; V18 -14.054,-9.679; V20 -14.054,-7.916; V22 -14.054,-6.153; V24 -14.054,-4.391; V26 -14.054,-2.628; V28 -14.054,-0.865; V30 -14.054,0.898; V32 -14.054,2.66; V34 -14.054,4.423; V36 -14.054,6.186; V38 -14.054,7.949; V40 -14.054,9.711; V42 -14.054,11.474; V44 -14.054,13.237; V46 -14.054,15; V48 -14.054,16.763; V50 -14.054,18.525; V52 -14.054,20.288; V54 -14.054,22.051; W5 -13.546,-21.137; W7 -13.546,-19.374; W9 -13.546,-17.611; W11 -13.546,-15.849; W13 -13.546,-14.086; W15 -13.546,-12.323; W17 -13.546,-10.56; W19 -13.546,-8.797; W21 -13.546,-7.035; W23 -13.546,-5.272; W25 -13.546,-3.509; W27 -13.546,-1.746; W29 -13.546,0.016; W31 -13.546,1.779; W33 -13.546,3.542; W35 -13.546,5.305; W37 -13.546,7.067; W39 -13.546,8.83; W41 -13.546,10.593; W43 -13.546,12.356; W45 -13.546,14.118; W47 -13.546,15.881; W49 -13.546,17.644; W51 -13.546,19.407; W53 -13.546,21.169; W55 -13.546,22.932; Y4 -13.038,-22.018; Y6 -13.038,-20.255; Y8 -13.038,-18.493; Y10 -13.038,-16.73; Y12 -13.038,-14.967; Y14 -13.038,-13.204; Y16 -13.038,-11.442; Y18 -13.038,-9.679; Y20 -13.038,-7.916; Y22 -13.038,-6.153; Y24 -13.038,-4.391; Y26 -13.038,-2.628; Y28 -13.038,-0.865; Y30 -13.038,0.898; Y32 -13.038,2.66; Y34 -13.038,4.423; Y36 -13.038,6.186; Y38 -13.038,7.949; Y40 -13.038,9.711; Y42 -13.038,11.474; Y44 -13.038,13.237; Y46 -13.038,15; Y48 -13.038,16.763; Y50 -13.038,18.525; Y52 -13.038,20.288; Y54 -13.038,22.051